# Altium schematic symbol library YL-LPC4350-CORE-V1.0 _Library.SchLib: 156 symbols (part 6 of 10)
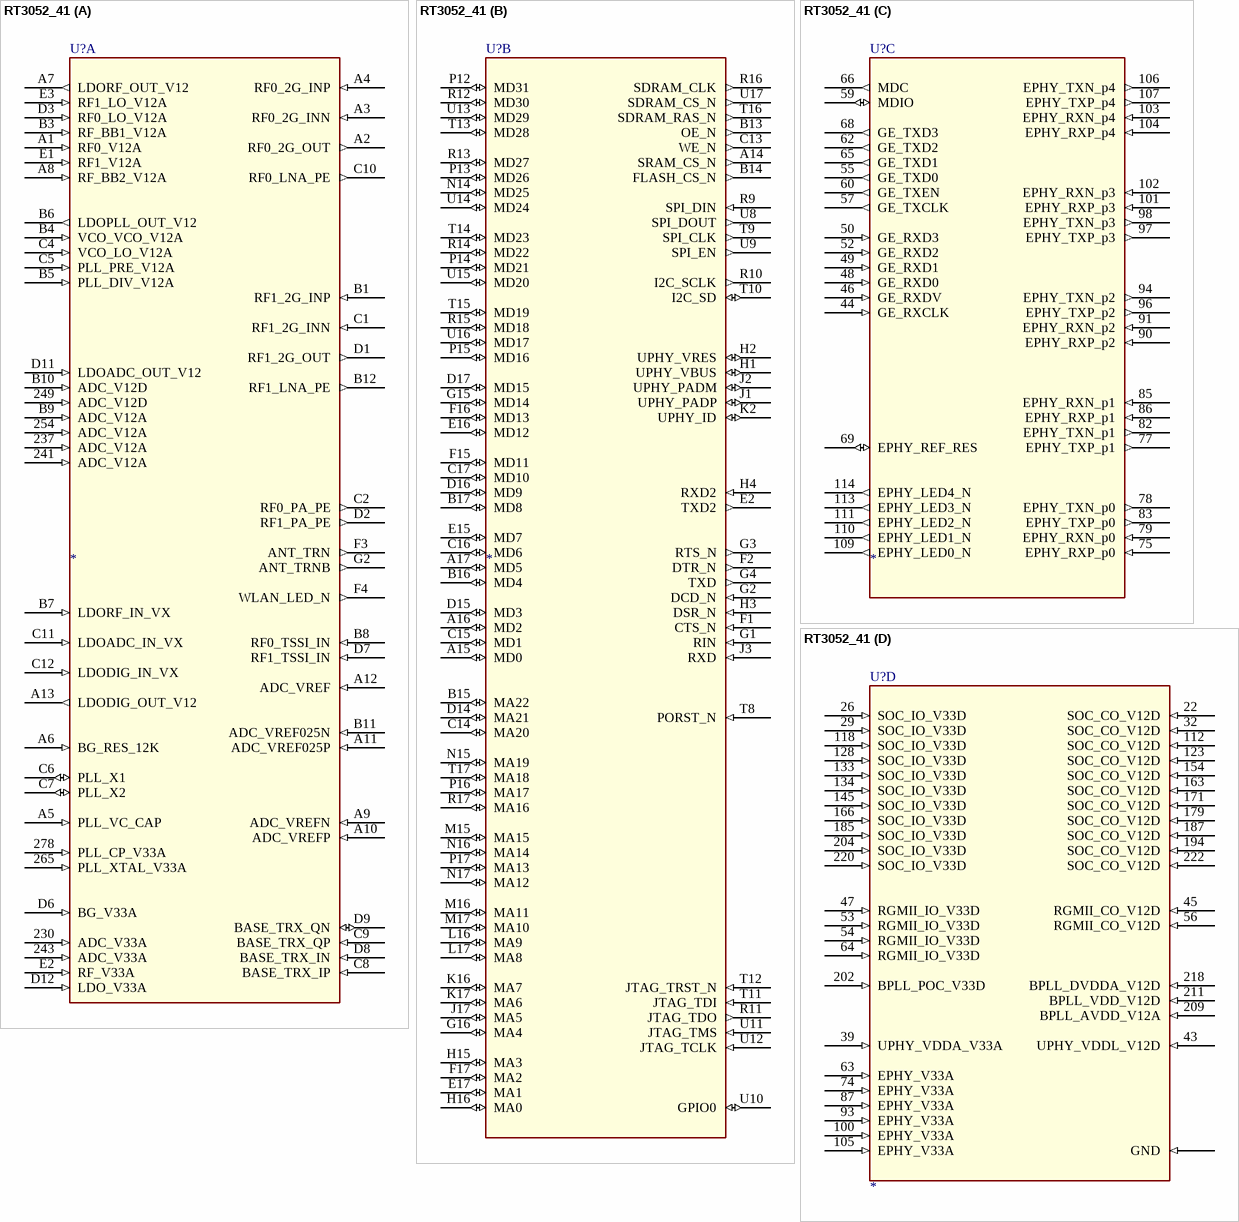
[diagram p155: symbol RT3052_41]

## RT3052_41
designator U?
Altium-Right: 180; Altium-Bottom: 630; Altium-Right1: 160; Altium-Bottom1: 720; Altium-Right2: 170; Altium-Bottom2: 360; Altium-Right3: 200; Altium-Bottom3: 330
footprint QFN285
part A pins: 230 ADC_V33A (in), 237 ADC_V12A (in), 241 ADC_V12A (in), 243 ADC_V33A (in), 249 ADC_V12D (in), 254 ADC_V12A (in), 265 PLL_XTAL_V33A (in), 278 PLL_CP_V33A (in), A1 RF0_V12A (in), A2 RF0_2G_OUT (out), A3 RF0_2G_INN (in), A4 RF0_2G_INP (in), A5 PLL_VC_CAP (in), A6 BG_RES_12K (in), A7 LDORF_OUT_V12 (out), A8 RF_BB2_V12A (in), A9 ADC_VREFN (in), A10 ADC_VREFP (in), A11 ADC_VREF025P (in), A12 ADC_VREF (in), A13 LDODIG_OUT_V12 (out), B1 RF1_2G_INP (in), B3 RF_BB1_V12A (in), B4 VCO_VCO_V12A (in), B5 PLL_DIV_V12A (in), B6 LDOPLL_OUT_V12 (out), B7 LDORF_IN_VX (in), B8 RF0_TSSI_IN (in), B9 ADC_V12A (in), B10 ADC_V12D (in), B11 ADC_VREF025N (in), B12 RF1_LNA_PE (out), C1 RF1_2G_INN (in), C2 RF0_PA_PE (out), C4 VCO_LO_V12A (in), C5 PLL_PRE_V12A (in), C6 PLL_X1 (io), C7 PLL_X2 (io), C8 BASE_TRX_IP (in), C9 BASE_TRX_QP (in), C10 RF0_LNA_PE (out), C11 LDOADC_IN_VX (in), C12 LDODIG_IN_VX (in), D1 RF1_2G_OUT (out), D2 RF1_PA_PE (out), D3 RF0_LO_V12A (in), D6 BG_V33A (in), D7 RF1_TSSI_IN (in), D8 BASE_TRX_IN (in), D9 BASE_TRX_QN (io), D11 LDOADC_OUT_V12 (in), D12 LDO_V33A (in), E1 RF1_V12A (in), E2 RF_V33A (in), E3 RF1_LO_V12A (in), F3 ANT_TRN (out), F4 WLAN_LED_N (out), G2 ANT_TRNB (out)
part B pins: A14 SRAM_CS_N (out), A15 MD0 (io), A16 MD2 (io), A17 MD5 (io), B13 OE_N (out), B14 FLASH_CS_N (out), B15 MA22 (io), B16 MD4 (io), B17 MD8 (io), C13 WE_N (out), C14 MA20 (io), C15 MD1 (io), C16 MD6 (io), C17 MD10 (io), D14 MA21 (io), D15 MD3 (io), D16 MD9 (io), D17 MD15 (io), E2 TXD2 (out), E15 MD7 (io), E16 MD12 (io), E17 MA1 (io), F1 CTS_N (in), F2 DTR_N (out), F15 MD11 (io), F16 MD13 (io), F17 MA2 (io), G1 RIN (in), G2 DCD_N (in), G3 RTS_N (out), G4 TXD (out), G15 MD14 (io), G16 MA4 (io), H1 UPHY_VBUS (io), H2 UPHY_VRES (io), H3 DSR_N (in), H4 RXD2 (in), H15 MA3 (io), H16 MA0 (io), J1 UPHY_PADP (io), J2 UPHY_PADM (io), J3 RXD (in), J17 MA5 (io), K2 UPHY_ID (io), K16 MA7 (io), K17 MA6 (io), L16 MA9 (io), L17 MA8 (io), M15 MA15 (io), M16 MA11 (io), M17 MA10 (io), N14 MD25 (io), N15 MA19 (io), N16 MA14 (io), N17 MA12 (io), P12 MD31 (io), P13 MD26 (io), P14 MD21 (io), P15 MD16 (io), P16 MA17 (io), P17 MA13 (io), R9 SPI_DIN (in), R10 I2C_SCLK (out), R11 JTAG_TDO (out), R12 MD30 (io), R13 MD27 (io), R14 MD22 (io), R15 MD18 (io), R16 SDRAM_CLK (out), R17 MA16 (io), T8 PORST_N (in), T9 SPI_CLK (out), T10 I2C_SD (io), T11 JTAG_TDI (in), T12 JTAG_TRST_N (in), T13 MD28 (io), T14 MD23 (io), T15 MD19 (io), T16 SDRAM_RAS_N (out), T17 MA18 (io), U8 SPI_DOUT (out), U9 SPI_EN (out), U10 GPIO0 (io), U11 JTAG_TMS (in), U12 JTAG_TCLK (in), U13 MD29 (io), U14 MD24 (io), U15 MD20 (io), U16 MD17 (io), U17 SDRAM_CS_N (out)
part C pins: 44 GE_RXCLK (in), 46 GE_RXDV (in), 48 GE_RXD0 (in), 49 GE_RXD1 (in), 50 GE_RXD3 (in), 52 GE_RXD2 (in), 55 GE_TXD0 (out), 57 GE_TXCLK (out), 59 MDIO (io), 60 GE_TXEN (out), 62 GE_TXD2 (out), 65 GE_TXD1 (out), 66 MDC (out), 68 GE_TXD3 (out), 69 EPHY_REF_RES (io), 75 EPHY_RXP_p0 (in), 77 EPHY_TXP_p1 (out), 78 EPHY_TXN_p0 (out), 79 EPHY_RXN_p0 (in), 82 EPHY_TXN_p1 (out), 83 EPHY_TXP_p0 (out), 85 EPHY_RXN_p1 (in), 86 EPHY_RXP_p1 (in), 90 EPHY_RXP_p2 (in), 91 EPHY_RXN_p2 (in), 94 EPHY_TXN_p2 (out), 96 EPHY_TXP_p2 (out), 97 EPHY_TXP_p3 (out), 98 EPHY_TXN_p3 (out), 101 EPHY_RXP_p3 (in), 102 EPHY_RXN_p3 (in), 103 EPHY_RXN_p4 (in), 104 EPHY_RXP_p4 (in), 106 EPHY_TXN_p4 (out), 107 EPHY_TXP_p4 (out), 109 EPHY_LED0_N (out), 110 EPHY_LED1_N (out), 111 EPHY_LED2_N (out), 113 EPHY_LED3_N (out), 114 EPHY_LED4_N (out)
part D pins: 22 SOC_CO_V12D (in), 26 SOC_IO_V33D (in), 29 SOC_IO_V33D (in), 32 SOC_CO_V12D (in), 39 UPHY_VDDA_V33A (in), 43 UPHY_VDDL_V12D (in), 45 RGMII_CO_V12D (in), 47 RGMII_IO_V33D (in), 53 RGMII_IO_V33D (in), 54 RGMII_IO_V33D (in), 56 RGMII_CO_V12D (in), 63 EPHY_V33A (in), 64 RGMII_IO_V33D (in), 74 EPHY_V33A (in), 87 EPHY_V33A (in), 93 EPHY_V33A (in), 100 EPHY_V33A (in), 105 EPHY_V33A (in), 112 SOC_CO_V12D (in), 118 SOC_IO_V33D (in), 123 SOC_CO_V12D (in), 128 SOC_IO_V33D (in), 133 SOC_IO_V33D (in), 134 SOC_IO_V33D (in), 145 SOC_IO_V33D (in), 154 SOC_CO_V12D (in), 163 SOC_CO_V12D (in), 166 SOC_IO_V33D (in), 171 SOC_CO_V12D (in), 179 SOC_CO_V12D (in), 185 SOC_IO_V33D (in), 187 SOC_CO_V12D (in), 194 SOC_CO_V12D (in), 202 BPLL_POC_V33D (in), 204 SOC_IO_V33D (in), 209 BPLL_AVDD_V12A (in), 211 BPLL_VDD_V12D (in), 218 BPLL_DVDDA_V12D (in), 220 SOC_IO_V33D (in), 222 SOC_CO_V12D (in), GND (in)

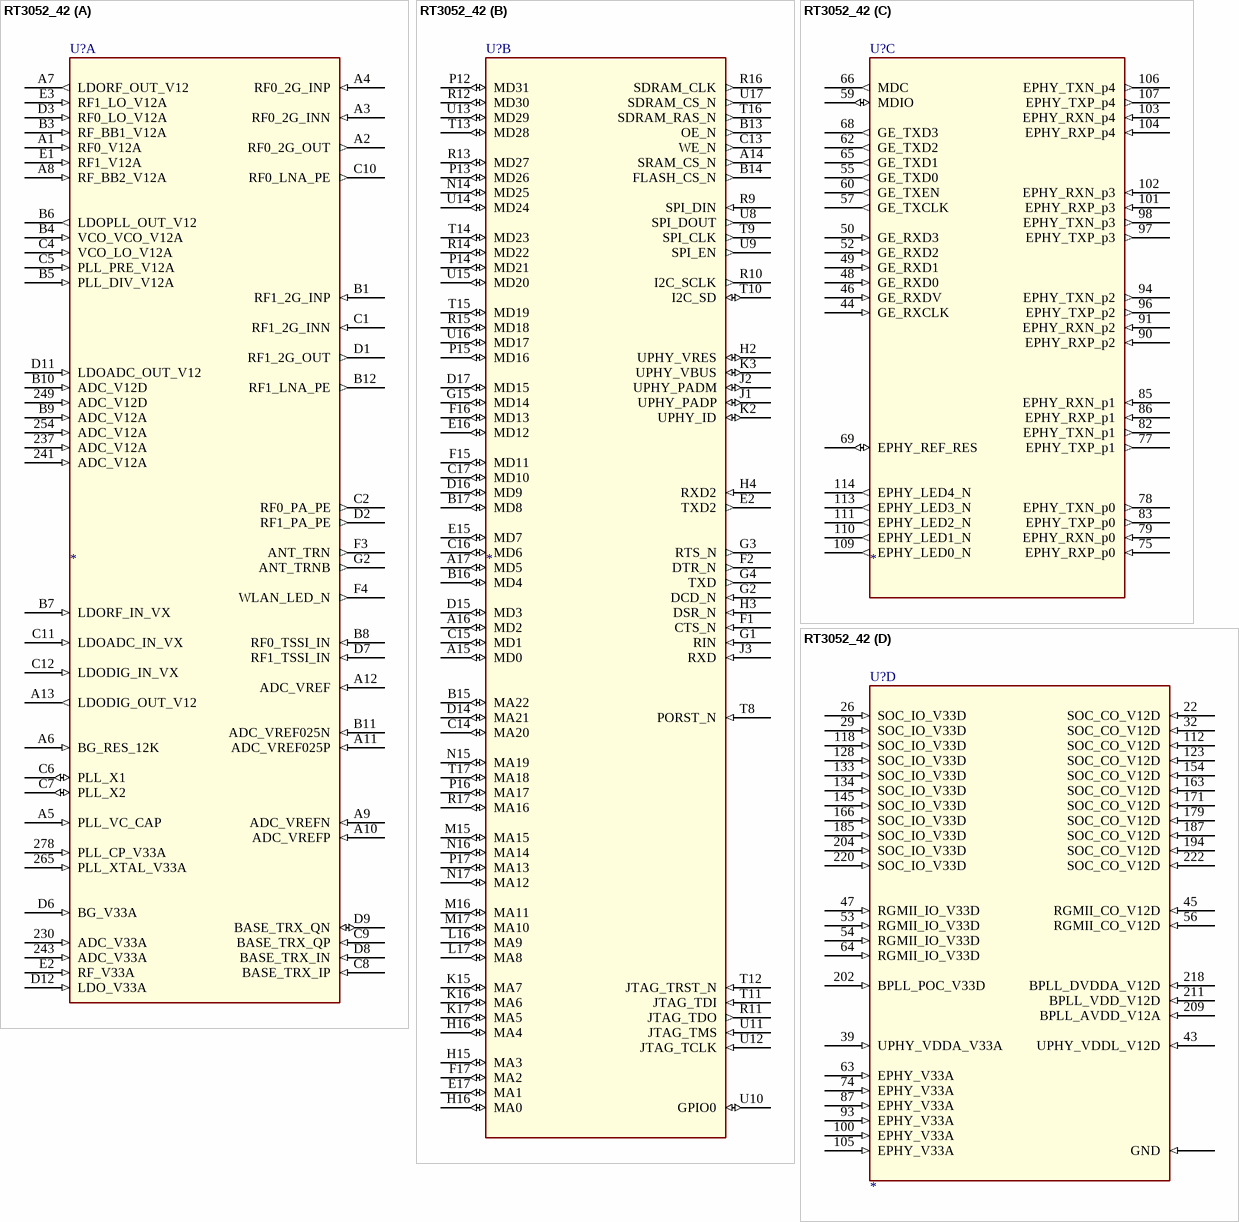
[diagram p53: symbol RT3052_42]

## RT3052_42
designator U?
Altium-Right: 180; Altium-Bottom: 630; Altium-Right1: 160; Altium-Bottom1: 720; Altium-Right2: 170; Altium-Bottom2: 360; Altium-Right3: 200; Altium-Bottom3: 330
footprint QFN285
part A pins: 230 ADC_V33A (in), 237 ADC_V12A (in), 241 ADC_V12A (in), 243 ADC_V33A (in), 249 ADC_V12D (in), 254 ADC_V12A (in), 265 PLL_XTAL_V33A (in), 278 PLL_CP_V33A (in), A1 RF0_V12A (in), A2 RF0_2G_OUT (out), A3 RF0_2G_INN (in), A4 RF0_2G_INP (in), A5 PLL_VC_CAP (in), A6 BG_RES_12K (in), A7 LDORF_OUT_V12 (out), A8 RF_BB2_V12A (in), A9 ADC_VREFN (in), A10 ADC_VREFP (in), A11 ADC_VREF025P (in), A12 ADC_VREF (in), A13 LDODIG_OUT_V12 (out), B1 RF1_2G_INP (in), B3 RF_BB1_V12A (in), B4 VCO_VCO_V12A (in), B5 PLL_DIV_V12A (in), B6 LDOPLL_OUT_V12 (out), B7 LDORF_IN_VX (in), B8 RF0_TSSI_IN (in), B9 ADC_V12A (in), B10 ADC_V12D (in), B11 ADC_VREF025N (in), B12 RF1_LNA_PE (out), C1 RF1_2G_INN (in), C2 RF0_PA_PE (out), C4 VCO_LO_V12A (in), C5 PLL_PRE_V12A (in), C6 PLL_X1 (io), C7 PLL_X2 (io), C8 BASE_TRX_IP (in), C9 BASE_TRX_QP (in), C10 RF0_LNA_PE (out), C11 LDOADC_IN_VX (in), C12 LDODIG_IN_VX (in), D1 RF1_2G_OUT (out), D2 RF1_PA_PE (out), D3 RF0_LO_V12A (in), D6 BG_V33A (in), D7 RF1_TSSI_IN (in), D8 BASE_TRX_IN (in), D9 BASE_TRX_QN (io), D11 LDOADC_OUT_V12 (in), D12 LDO_V33A (in), E1 RF1_V12A (in), E2 RF_V33A (in), E3 RF1_LO_V12A (in), F3 ANT_TRN (out), F4 WLAN_LED_N (out), G2 ANT_TRNB (out)
part B pins: A14 SRAM_CS_N (out), A15 MD0 (io), A16 MD2 (io), A17 MD5 (io), B13 OE_N (out), B14 FLASH_CS_N (out), B15 MA22 (io), B16 MD4 (io), B17 MD8 (io), C13 WE_N (out), C14 MA20 (io), C15 MD1 (io), C16 MD6 (io), C17 MD10 (io), D14 MA21 (io), D15 MD3 (io), D16 MD9 (io), D17 MD15 (io), E2 TXD2 (out), E15 MD7 (io), E16 MD12 (io), E17 MA1 (io), F1 CTS_N (in), F2 DTR_N (out), F15 MD11 (io), F16 MD13 (io), F17 MA2 (io), G1 RIN (in), G2 DCD_N (in), G3 RTS_N (out), G4 TXD (out), G15 MD14 (io), H2 UPHY_VRES (io), H3 DSR_N (in), H4 RXD2 (in), H15 MA3 (io), H16 MA4 (io), H16 MA0 (io), J1 UPHY_PADP (io), J2 UPHY_PADM (io), J3 RXD (in), K2 UPHY_ID (io), K3 UPHY_VBUS (io), K15 MA7 (io), K16 MA6 (io), K17 MA5 (io), L16 MA9 (io), L17 MA8 (io), M15 MA15 (io), M16 MA11 (io), M17 MA10 (io), N14 MD25 (io), N15 MA19 (io), N16 MA14 (io), N17 MA12 (io), P12 MD31 (io), P13 MD26 (io), P14 MD21 (io), P15 MD16 (io), P16 MA17 (io), P17 MA13 (io), R9 SPI_DIN (in), R10 I2C_SCLK (out), R11 JTAG_TDO (out), R12 MD30 (io), R13 MD27 (io), R14 MD22 (io), R15 MD18 (io), R16 SDRAM_CLK (out), R17 MA16 (io), T8 PORST_N (in), T9 SPI_CLK (out), T10 I2C_SD (io), T11 JTAG_TDI (in), T12 JTAG_TRST_N (in), T13 MD28 (io), T14 MD23 (io), T15 MD19 (io), T16 SDRAM_RAS_N (out), T17 MA18 (io), U8 SPI_DOUT (out), U9 SPI_EN (out), U10 GPIO0 (io), U11 JTAG_TMS (in), U12 JTAG_TCLK (in), U13 MD29 (io), U14 MD24 (io), U15 MD20 (io), U16 MD17 (io), U17 SDRAM_CS_N (out)
part C pins: 44 GE_RXCLK (in), 46 GE_RXDV (in), 48 GE_RXD0 (in), 49 GE_RXD1 (in), 50 GE_RXD3 (in), 52 GE_RXD2 (in), 55 GE_TXD0 (out), 57 GE_TXCLK (out), 59 MDIO (io), 60 GE_TXEN (out), 62 GE_TXD2 (out), 65 GE_TXD1 (out), 66 MDC (out), 68 GE_TXD3 (out), 69 EPHY_REF_RES (io), 75 EPHY_RXP_p0 (in), 77 EPHY_TXP_p1 (out), 78 EPHY_TXN_p0 (out), 79 EPHY_RXN_p0 (in), 82 EPHY_TXN_p1 (out), 83 EPHY_TXP_p0 (out), 85 EPHY_RXN_p1 (in), 86 EPHY_RXP_p1 (in), 90 EPHY_RXP_p2 (in), 91 EPHY_RXN_p2 (in), 94 EPHY_TXN_p2 (out), 96 EPHY_TXP_p2 (out), 97 EPHY_TXP_p3 (out), 98 EPHY_TXN_p3 (out), 101 EPHY_RXP_p3 (in), 102 EPHY_RXN_p3 (in), 103 EPHY_RXN_p4 (in), 104 EPHY_RXP_p4 (in), 106 EPHY_TXN_p4 (out), 107 EPHY_TXP_p4 (out), 109 EPHY_LED0_N (out), 110 EPHY_LED1_N (out), 111 EPHY_LED2_N (out), 113 EPHY_LED3_N (out), 114 EPHY_LED4_N (out)
part D pins: 22 SOC_CO_V12D (in), 26 SOC_IO_V33D (in), 29 SOC_IO_V33D (in), 32 SOC_CO_V12D (in), 39 UPHY_VDDA_V33A (in), 43 UPHY_VDDL_V12D (in), 45 RGMII_CO_V12D (in), 47 RGMII_IO_V33D (in), 53 RGMII_IO_V33D (in), 54 RGMII_IO_V33D (in), 56 RGMII_CO_V12D (in), 63 EPHY_V33A (in), 64 RGMII_IO_V33D (in), 74 EPHY_V33A (in), 87 EPHY_V33A (in), 93 EPHY_V33A (in), 100 EPHY_V33A (in), 105 EPHY_V33A (in), 112 SOC_CO_V12D (in), 118 SOC_IO_V33D (in), 123 SOC_CO_V12D (in), 128 SOC_IO_V33D (in), 133 SOC_IO_V33D (in), 134 SOC_IO_V33D (in), 145 SOC_IO_V33D (in), 154 SOC_CO_V12D (in), 163 SOC_CO_V12D (in), 166 SOC_IO_V33D (in), 171 SOC_CO_V12D (in), 179 SOC_CO_V12D (in), 185 SOC_IO_V33D (in), 187 SOC_CO_V12D (in), 194 SOC_CO_V12D (in), 202 BPLL_POC_V33D (in), 204 SOC_IO_V33D (in), 209 BPLL_AVDD_V12A (in), 211 BPLL_VDD_V12D (in), 218 BPLL_DVDDA_V12D (in), 220 SOC_IO_V33D (in), 222 SOC_CO_V12D (in), GND (in)

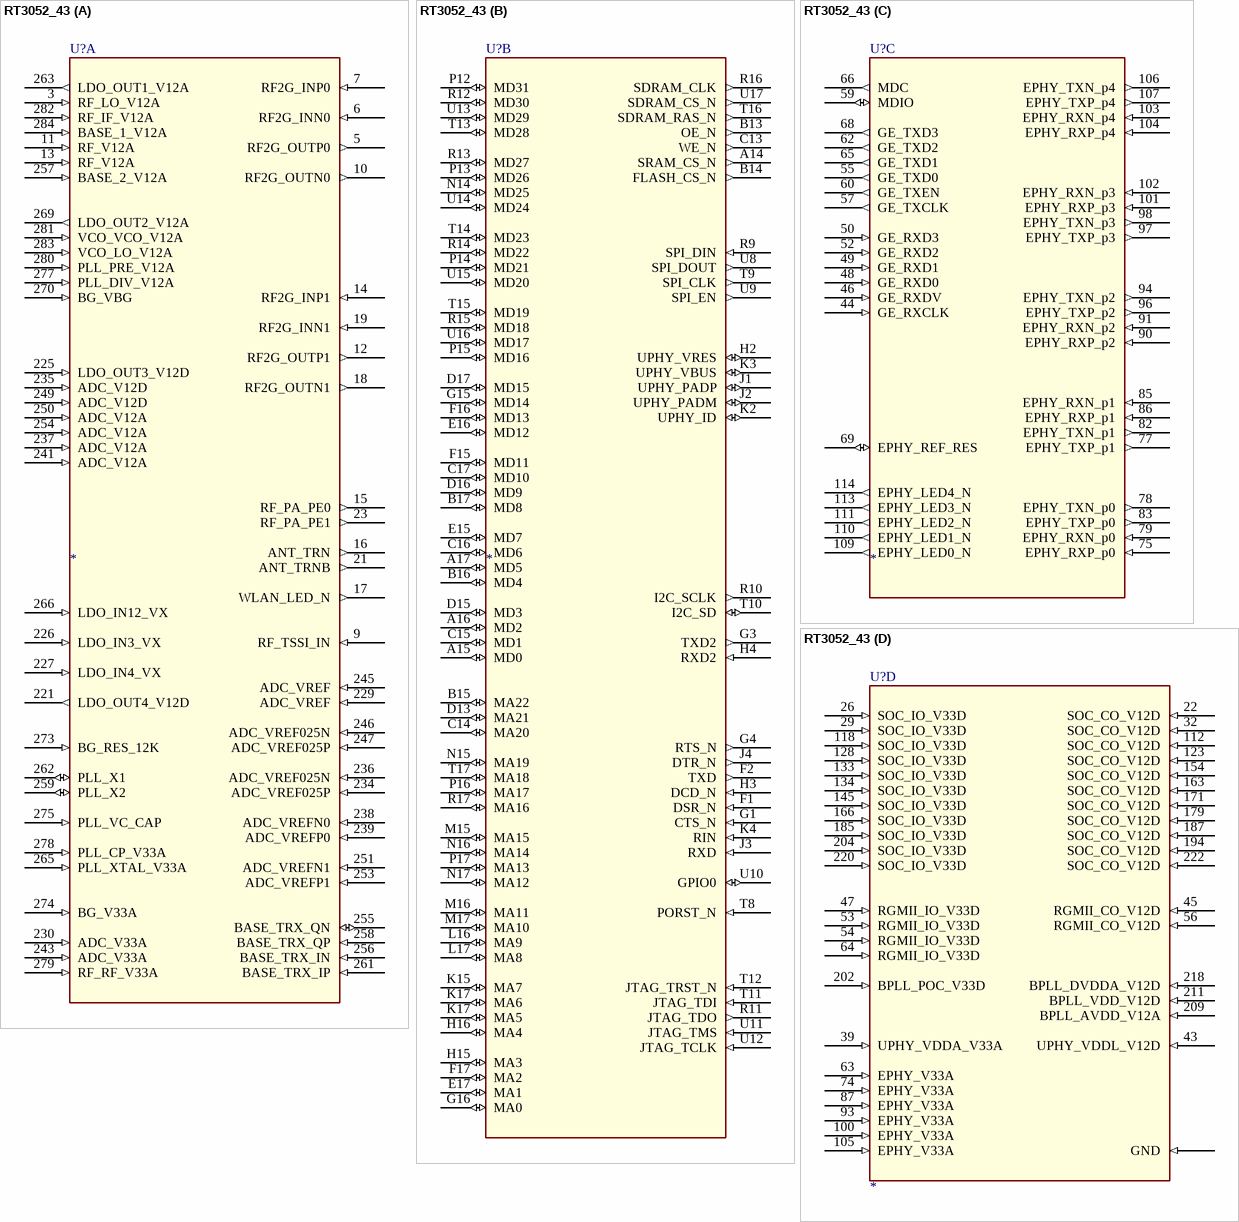
[diagram p54: symbol RT3052_43]

## RT3052_43
designator U?
Altium-Right: 180; Altium-Bottom: 630; Altium-Right1: 160; Altium-Bottom1: 720; Altium-Right2: 170; Altium-Bottom2: 360; Altium-Right3: 200; Altium-Bottom3: 330
footprint TFBGA289
part A pins: 3 RF_LO_V12A (in), 5 RF2G_OUTP0 (out), 6 RF2G_INN0 (in), 7 RF2G_INP0 (in), 9 RF_TSSI_IN (in), 10 RF2G_OUTN0 (out), 11 RF_V12A (in), 12 RF2G_OUTP1 (out), 13 RF_V12A (in), 14 RF2G_INP1 (in), 15 RF_PA_PE0 (out), 16 ANT_TRN (out), 17 WLAN_LED_N (out), 18 RF2G_OUTN1 (out), 19 RF2G_INN1 (in), 21 ANT_TRNB (out), 23 RF_PA_PE1 (out), 221 LDO_OUT4_V12D (out), 225 LDO_OUT3_V12D (in), 226 LDO_IN3_VX (in), 227 LDO_IN4_VX (in), 229 ADC_VREF (in), 230 ADC_V33A (in), 234 ADC_VREF025P (in), 235 ADC_V12D (in), 236 ADC_VREF025N (in), 237 ADC_V12A (in), 238 ADC_VREFN0 (in), 239 ADC_VREFP0 (in), 241 ADC_V12A (in), 243 ADC_V33A (in), 245 ADC_VREF (in), 246 ADC_VREF025N (in), 247 ADC_VREF025P (in), 249 ADC_V12D (in), 250 ADC_V12A (in), 251 ADC_VREFN1 (in), 253 ADC_VREFP1 (in), 254 ADC_V12A (in), 255 BASE_TRX_QN (io), 256 BASE_TRX_IN (in), 257 BASE_2_V12A (in), 258 BASE_TRX_QP (in), 259 PLL_X2 (io), 261 BASE_TRX_IP (in), 262 PLL_X1 (io), 263 LDO_OUT1_V12A (out), 265 PLL_XTAL_V33A (in), 266 LDO_IN12_VX (in), 269 LDO_OUT2_V12A (out), 270 BG_VBG (in), 273 BG_RES_12K (in), 274 BG_V33A (in), 275 PLL_VC_CAP (in), 277 PLL_DIV_V12A (in), 278 PLL_CP_V33A (in), 279 RF_RF_V33A (in), 280 PLL_PRE_V12A (in), 281 VCO_VCO_V12A (in), 282 RF_IF_V12A (in), 283 VCO_LO_V12A (in), 284 BASE_1_V12A (in)
part B pins: A14 SRAM_CS_N (out), A15 MD0 (io), A16 MD2 (io), A17 MD5 (io), B13 OE_N (out), B14 FLASH_CS_N (out), B15 MA22 (io), B16 MD4 (io), B17 MD8 (io), C13 WE_N (out), C14 MA20 (io), C15 MD1 (io), C16 MD6 (io), C17 MD10 (io), D13 MA21 (io), D15 MD3 (io), D16 MD9 (io), D17 MD15 (io), E15 MD7 (io), E16 MD12 (io), E17 MA1 (io), F1 DSR_N (in), F2 TXD (out), F15 MD11 (io), F16 MD13 (io), F17 MA2 (io), G1 CTS_N (in), G3 TXD2 (out), G4 RTS_N (out), G15 MD14 (io), G16 MA0 (io), H2 UPHY_VRES (io), H3 DCD_N (in), H4 RXD2 (in), H15 MA3 (io), H16 MA4 (io), J1 UPHY_PADP (io), J2 UPHY_PADM (io), J3 RXD (in), J4 DTR_N (out), K2 UPHY_ID (io), K3 UPHY_VBUS (io), K4 RIN (in), K15 MA7 (io), K17 MA6 (io), K17 MA5 (io), L16 MA9 (io), L17 MA8 (io), M15 MA15 (io), M16 MA11 (io), M17 MA10 (io), N14 MD25 (io), N15 MA19 (io), N16 MA14 (io), N17 MA12 (io), P12 MD31 (io), P13 MD26 (io), P14 MD21 (io), P15 MD16 (io), P16 MA17 (io), P17 MA13 (io), R9 SPI_DIN (in), R10 I2C_SCLK (out), R11 JTAG_TDO (out), R12 MD30 (io), R13 MD27 (io), R14 MD22 (io), R15 MD18 (io), R16 SDRAM_CLK (out), R17 MA16 (io), T8 PORST_N (in), T9 SPI_CLK (out), T10 I2C_SD (io), T11 JTAG_TDI (in), T12 JTAG_TRST_N (in), T13 MD28 (io), T14 MD23 (io), T15 MD19 (io), T16 SDRAM_RAS_N (out), T17 MA18 (io), U8 SPI_DOUT (out), U9 SPI_EN (out), U10 GPIO0 (io), U11 JTAG_TMS (in), U12 JTAG_TCLK (in), U13 MD29 (io), U14 MD24 (io), U15 MD20 (io), U16 MD17 (io), U17 SDRAM_CS_N (out)
part C pins: 44 GE_RXCLK (in), 46 GE_RXDV (in), 48 GE_RXD0 (in), 49 GE_RXD1 (in), 50 GE_RXD3 (in), 52 GE_RXD2 (in), 55 GE_TXD0 (out), 57 GE_TXCLK (out), 59 MDIO (io), 60 GE_TXEN (out), 62 GE_TXD2 (out), 65 GE_TXD1 (out), 66 MDC (out), 68 GE_TXD3 (out), 69 EPHY_REF_RES (io), 75 EPHY_RXP_p0 (in), 77 EPHY_TXP_p1 (out), 78 EPHY_TXN_p0 (out), 79 EPHY_RXN_p0 (in), 82 EPHY_TXN_p1 (out), 83 EPHY_TXP_p0 (out), 85 EPHY_RXN_p1 (in), 86 EPHY_RXP_p1 (in), 90 EPHY_RXP_p2 (in), 91 EPHY_RXN_p2 (in), 94 EPHY_TXN_p2 (out), 96 EPHY_TXP_p2 (out), 97 EPHY_TXP_p3 (out), 98 EPHY_TXN_p3 (out), 101 EPHY_RXP_p3 (in), 102 EPHY_RXN_p3 (in), 103 EPHY_RXN_p4 (in), 104 EPHY_RXP_p4 (in), 106 EPHY_TXN_p4 (out), 107 EPHY_TXP_p4 (out), 109 EPHY_LED0_N (out), 110 EPHY_LED1_N (out), 111 EPHY_LED2_N (out), 113 EPHY_LED3_N (out), 114 EPHY_LED4_N (out)
part D pins: 22 SOC_CO_V12D (in), 26 SOC_IO_V33D (in), 29 SOC_IO_V33D (in), 32 SOC_CO_V12D (in), 39 UPHY_VDDA_V33A (in), 43 UPHY_VDDL_V12D (in), 45 RGMII_CO_V12D (in), 47 RGMII_IO_V33D (in), 53 RGMII_IO_V33D (in), 54 RGMII_IO_V33D (in), 56 RGMII_CO_V12D (in), 63 EPHY_V33A (in), 64 RGMII_IO_V33D (in), 74 EPHY_V33A (in), 87 EPHY_V33A (in), 93 EPHY_V33A (in), 100 EPHY_V33A (in), 105 EPHY_V33A (in), 112 SOC_CO_V12D (in), 118 SOC_IO_V33D (in), 123 SOC_CO_V12D (in), 128 SOC_IO_V33D (in), 133 SOC_IO_V33D (in), 134 SOC_IO_V33D (in), 145 SOC_IO_V33D (in), 154 SOC_CO_V12D (in), 163 SOC_CO_V12D (in), 166 SOC_IO_V33D (in), 171 SOC_CO_V12D (in), 179 SOC_CO_V12D (in), 185 SOC_IO_V33D (in), 187 SOC_CO_V12D (in), 194 SOC_CO_V12D (in), 202 BPLL_POC_V33D (in), 204 SOC_IO_V33D (in), 209 BPLL_AVDD_V12A (in), 211 BPLL_VDD_V12D (in), 218 BPLL_DVDDA_V12D (in), 220 SOC_IO_V33D (in), 222 SOC_CO_V12D (in), GND (in)

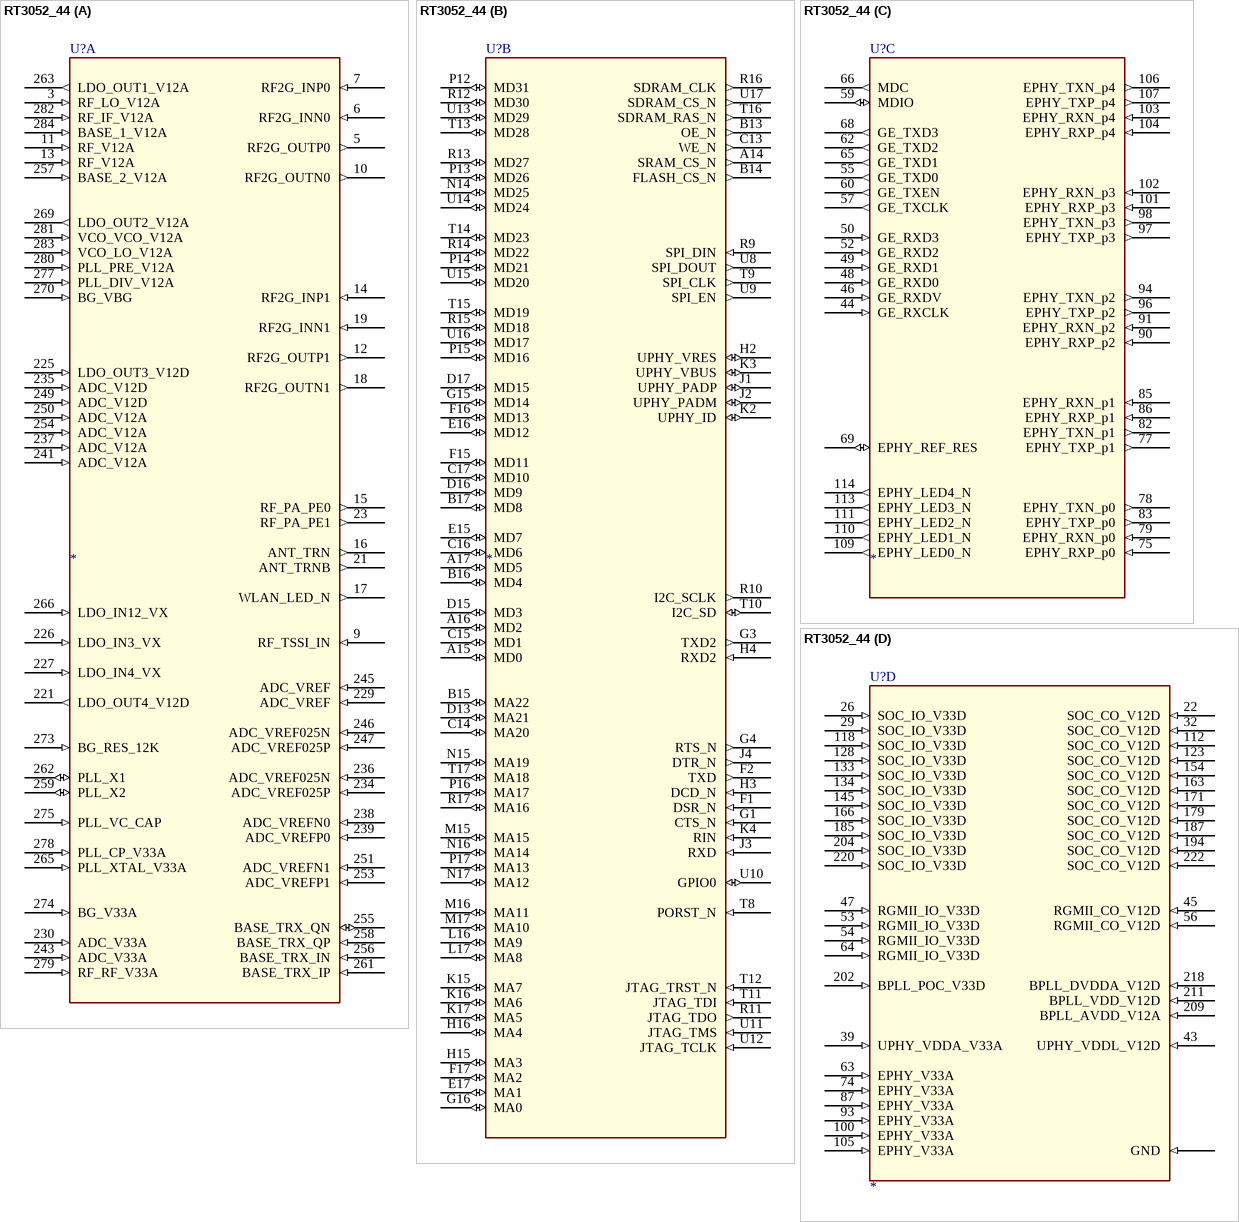
[diagram p55: symbol RT3052_44]

## RT3052_44
designator U?
Altium-Right: 180; Altium-Bottom: 630; Altium-Right1: 160; Altium-Bottom1: 720; Altium-Right2: 170; Altium-Bottom2: 360; Altium-Right3: 200; Altium-Bottom3: 330
footprint TFBGA289
part A pins: 3 RF_LO_V12A (in), 5 RF2G_OUTP0 (out), 6 RF2G_INN0 (in), 7 RF2G_INP0 (in), 9 RF_TSSI_IN (in), 10 RF2G_OUTN0 (out), 11 RF_V12A (in), 12 RF2G_OUTP1 (out), 13 RF_V12A (in), 14 RF2G_INP1 (in), 15 RF_PA_PE0 (out), 16 ANT_TRN (out), 17 WLAN_LED_N (out), 18 RF2G_OUTN1 (out), 19 RF2G_INN1 (in), 21 ANT_TRNB (out), 23 RF_PA_PE1 (out), 221 LDO_OUT4_V12D (out), 225 LDO_OUT3_V12D (in), 226 LDO_IN3_VX (in), 227 LDO_IN4_VX (in), 229 ADC_VREF (in), 230 ADC_V33A (in), 234 ADC_VREF025P (in), 235 ADC_V12D (in), 236 ADC_VREF025N (in), 237 ADC_V12A (in), 238 ADC_VREFN0 (in), 239 ADC_VREFP0 (in), 241 ADC_V12A (in), 243 ADC_V33A (in), 245 ADC_VREF (in), 246 ADC_VREF025N (in), 247 ADC_VREF025P (in), 249 ADC_V12D (in), 250 ADC_V12A (in), 251 ADC_VREFN1 (in), 253 ADC_VREFP1 (in), 254 ADC_V12A (in), 255 BASE_TRX_QN (io), 256 BASE_TRX_IN (in), 257 BASE_2_V12A (in), 258 BASE_TRX_QP (in), 259 PLL_X2 (io), 261 BASE_TRX_IP (in), 262 PLL_X1 (io), 263 LDO_OUT1_V12A (out), 265 PLL_XTAL_V33A (in), 266 LDO_IN12_VX (in), 269 LDO_OUT2_V12A (out), 270 BG_VBG (in), 273 BG_RES_12K (in), 274 BG_V33A (in), 275 PLL_VC_CAP (in), 277 PLL_DIV_V12A (in), 278 PLL_CP_V33A (in), 279 RF_RF_V33A (in), 280 PLL_PRE_V12A (in), 281 VCO_VCO_V12A (in), 282 RF_IF_V12A (in), 283 VCO_LO_V12A (in), 284 BASE_1_V12A (in)
part B pins: A14 SRAM_CS_N (out), A15 MD0 (io), A16 MD2 (io), A17 MD5 (io), B13 OE_N (out), B14 FLASH_CS_N (out), B15 MA22 (io), B16 MD4 (io), B17 MD8 (io), C13 WE_N (out), C14 MA20 (io), C15 MD1 (io), C16 MD6 (io), C17 MD10 (io), D13 MA21 (io), D15 MD3 (io), D16 MD9 (io), D17 MD15 (io), E15 MD7 (io), E16 MD12 (io), E17 MA1 (io), F1 DSR_N (in), F2 TXD (out), F15 MD11 (io), F16 MD13 (io), F17 MA2 (io), G1 CTS_N (in), G3 TXD2 (out), G4 RTS_N (out), G15 MD14 (io), G16 MA0 (io), H2 UPHY_VRES (io), H3 DCD_N (in), H4 RXD2 (in), H15 MA3 (io), H16 MA4 (io), J1 UPHY_PADP (io), J2 UPHY_PADM (io), J3 RXD (in), J4 DTR_N (out), K2 UPHY_ID (io), K3 UPHY_VBUS (io), K4 RIN (in), K15 MA7 (io), K16 MA6 (io), K17 MA5 (io), L16 MA9 (io), L17 MA8 (io), M15 MA15 (io), M16 MA11 (io), M17 MA10 (io), N14 MD25 (io), N15 MA19 (io), N16 MA14 (io), N17 MA12 (io), P12 MD31 (io), P13 MD26 (io), P14 MD21 (io), P15 MD16 (io), P16 MA17 (io), P17 MA13 (io), R9 SPI_DIN (in), R10 I2C_SCLK (out), R11 JTAG_TDO (out), R12 MD30 (io), R13 MD27 (io), R14 MD22 (io), R15 MD18 (io), R16 SDRAM_CLK (out), R17 MA16 (io), T8 PORST_N (in), T9 SPI_CLK (out), T10 I2C_SD (io), T11 JTAG_TDI (in), T12 JTAG_TRST_N (in), T13 MD28 (io), T14 MD23 (io), T15 MD19 (io), T16 SDRAM_RAS_N (out), T17 MA18 (io), U8 SPI_DOUT (out), U9 SPI_EN (out), U10 GPIO0 (io), U11 JTAG_TMS (in), U12 JTAG_TCLK (in), U13 MD29 (io), U14 MD24 (io), U15 MD20 (io), U16 MD17 (io), U17 SDRAM_CS_N (out)
part C pins: 44 GE_RXCLK (in), 46 GE_RXDV (in), 48 GE_RXD0 (in), 49 GE_RXD1 (in), 50 GE_RXD3 (in), 52 GE_RXD2 (in), 55 GE_TXD0 (out), 57 GE_TXCLK (out), 59 MDIO (io), 60 GE_TXEN (out), 62 GE_TXD2 (out), 65 GE_TXD1 (out), 66 MDC (out), 68 GE_TXD3 (out), 69 EPHY_REF_RES (io), 75 EPHY_RXP_p0 (in), 77 EPHY_TXP_p1 (out), 78 EPHY_TXN_p0 (out), 79 EPHY_RXN_p0 (in), 82 EPHY_TXN_p1 (out), 83 EPHY_TXP_p0 (out), 85 EPHY_RXN_p1 (in), 86 EPHY_RXP_p1 (in), 90 EPHY_RXP_p2 (in), 91 EPHY_RXN_p2 (in), 94 EPHY_TXN_p2 (out), 96 EPHY_TXP_p2 (out), 97 EPHY_TXP_p3 (out), 98 EPHY_TXN_p3 (out), 101 EPHY_RXP_p3 (in), 102 EPHY_RXN_p3 (in), 103 EPHY_RXN_p4 (in), 104 EPHY_RXP_p4 (in), 106 EPHY_TXN_p4 (out), 107 EPHY_TXP_p4 (out), 109 EPHY_LED0_N (out), 110 EPHY_LED1_N (out), 111 EPHY_LED2_N (out), 113 EPHY_LED3_N (out), 114 EPHY_LED4_N (out)
part D pins: 22 SOC_CO_V12D (in), 26 SOC_IO_V33D (in), 29 SOC_IO_V33D (in), 32 SOC_CO_V12D (in), 39 UPHY_VDDA_V33A (in), 43 UPHY_VDDL_V12D (in), 45 RGMII_CO_V12D (in), 47 RGMII_IO_V33D (in), 53 RGMII_IO_V33D (in), 54 RGMII_IO_V33D (in), 56 RGMII_CO_V12D (in), 63 EPHY_V33A (in), 64 RGMII_IO_V33D (in), 74 EPHY_V33A (in), 87 EPHY_V33A (in), 93 EPHY_V33A (in), 100 EPHY_V33A (in), 105 EPHY_V33A (in), 112 SOC_CO_V12D (in), 118 SOC_IO_V33D (in), 123 SOC_CO_V12D (in), 128 SOC_IO_V33D (in), 133 SOC_IO_V33D (in), 134 SOC_IO_V33D (in), 145 SOC_IO_V33D (in), 154 SOC_CO_V12D (in), 163 SOC_CO_V12D (in), 166 SOC_IO_V33D (in), 171 SOC_CO_V12D (in), 179 SOC_CO_V12D (in), 185 SOC_IO_V33D (in), 187 SOC_CO_V12D (in), 194 SOC_CO_V12D (in), 202 BPLL_POC_V33D (in), 204 SOC_IO_V33D (in), 209 BPLL_AVDD_V12A (in), 211 BPLL_VDD_V12D (in), 218 BPLL_DVDDA_V12D (in), 220 SOC_IO_V33D (in), 222 SOC_CO_V12D (in), GND (in)

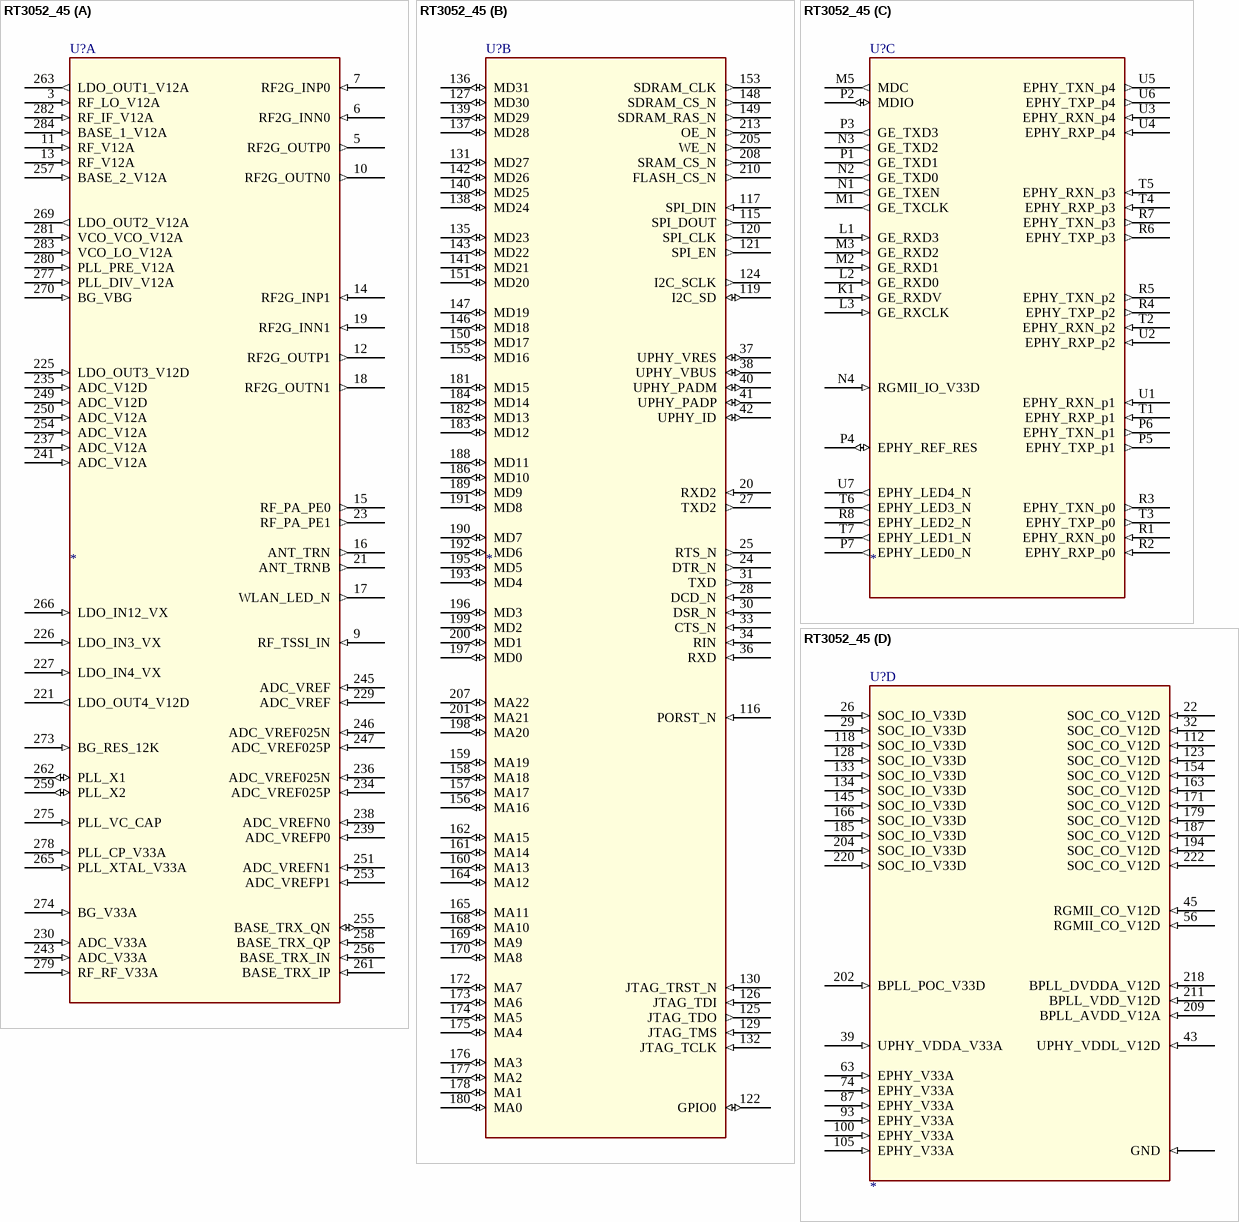
[diagram p56: symbol RT3052_45]

## RT3052_45
designator U?
Altium-Right: 180; Altium-Bottom: 630; Altium-Right1: 160; Altium-Bottom1: 720; Altium-Right2: 170; Altium-Bottom2: 360; Altium-Right3: 200; Altium-Bottom3: 330
footprint QFN285
part A pins: 3 RF_LO_V12A (in), 5 RF2G_OUTP0 (out), 6 RF2G_INN0 (in), 7 RF2G_INP0 (in), 9 RF_TSSI_IN (in), 10 RF2G_OUTN0 (out), 11 RF_V12A (in), 12 RF2G_OUTP1 (out), 13 RF_V12A (in), 14 RF2G_INP1 (in), 15 RF_PA_PE0 (out), 16 ANT_TRN (out), 17 WLAN_LED_N (out), 18 RF2G_OUTN1 (out), 19 RF2G_INN1 (in), 21 ANT_TRNB (out), 23 RF_PA_PE1 (out), 221 LDO_OUT4_V12D (out), 225 LDO_OUT3_V12D (in), 226 LDO_IN3_VX (in), 227 LDO_IN4_VX (in), 229 ADC_VREF (in), 230 ADC_V33A (in), 234 ADC_VREF025P (in), 235 ADC_V12D (in), 236 ADC_VREF025N (in), 237 ADC_V12A (in), 238 ADC_VREFN0 (in), 239 ADC_VREFP0 (in), 241 ADC_V12A (in), 243 ADC_V33A (in), 245 ADC_VREF (in), 246 ADC_VREF025N (in), 247 ADC_VREF025P (in), 249 ADC_V12D (in), 250 ADC_V12A (in), 251 ADC_VREFN1 (in), 253 ADC_VREFP1 (in), 254 ADC_V12A (in), 255 BASE_TRX_QN (io), 256 BASE_TRX_IN (in), 257 BASE_2_V12A (in), 258 BASE_TRX_QP (in), 259 PLL_X2 (io), 261 BASE_TRX_IP (in), 262 PLL_X1 (io), 263 LDO_OUT1_V12A (out), 265 PLL_XTAL_V33A (in), 266 LDO_IN12_VX (in), 269 LDO_OUT2_V12A (out), 270 BG_VBG (in), 273 BG_RES_12K (in), 274 BG_V33A (in), 275 PLL_VC_CAP (in), 277 PLL_DIV_V12A (in), 278 PLL_CP_V33A (in), 279 RF_RF_V33A (in), 280 PLL_PRE_V12A (in), 281 VCO_VCO_V12A (in), 282 RF_IF_V12A (in), 283 VCO_LO_V12A (in), 284 BASE_1_V12A (in)
part B pins: 20 RXD2 (in), 24 DTR_N (out), 25 RTS_N (out), 27 TXD2 (out), 28 DCD_N (in), 30 DSR_N (in), 31 TXD (out), 33 CTS_N (in), 34 RIN (in), 36 RXD (in), 37 UPHY_VRES (io), 38 UPHY_VBUS (io), 40 UPHY_PADM (io), 41 UPHY_PADP (io), 42 UPHY_ID (io), 115 SPI_DOUT (out), 116 PORST_N (in), 117 SPI_DIN (in), 119 I2C_SD (io), 120 SPI_CLK (out), 121 SPI_EN (out), 122 GPIO0 (io), 124 I2C_SCLK (out), 125 JTAG_TDO (out), 126 JTAG_TDI (in), 127 MD30 (io), 129 JTAG_TMS (in), 130 JTAG_TRST_N (in), 131 MD27 (io), 132 JTAG_TCLK (in), 135 MD23 (io), 136 MD31 (io), 137 MD28 (io), 138 MD24 (io), 139 MD29 (io), 140 MD25 (io), 141 MD21 (io), 142 MD26 (io), 143 MD22 (io), 146 MD18 (io), 147 MD19 (io), 148 SDRAM_CS_N (out), 149 SDRAM_RAS_N (out), 150 MD17 (io), 151 MD20 (io), 153 SDRAM_CLK (out), 155 MD16 (io), 156 MA16 (io), 157 MA17 (io), 158 MA18 (io), 159 MA19 (io), 160 MA13 (io), 161 MA14 (io), 162 MA15 (io), 164 MA12 (io), 165 MA11 (io), 168 MA10 (io), 169 MA9 (io), 170 MA8 (io), 172 MA7 (io), 173 MA6 (io), 174 MA5 (io), 175 MA4 (io), 176 MA3 (io), 177 MA2 (io), 178 MA1 (io), 180 MA0 (io), 181 MD15 (io), 182 MD13 (io), 183 MD12 (io), 184 MD14 (io), 186 MD10 (io), 188 MD11 (io), 189 MD9 (io), 190 MD7 (io), 191 MD8 (io), 192 MD6 (io), 193 MD4 (io), 195 MD5 (io), 196 MD3 (io), 197 MD0 (io), 198 MA20 (io), 199 MD2 (io), 200 MD1 (io), 201 MA21 (io), 205 WE_N (out), 207 MA22 (io), 208 SRAM_CS_N (out), 210 FLASH_CS_N (out), 213 OE_N (out)
part C pins: K1 GE_RXDV (in), L1 GE_RXD3 (in), L2 GE_RXD0 (in), L3 GE_RXCLK (in), M1 GE_TXCLK (out), M2 GE_RXD1 (in), M3 GE_RXD2 (in), M5 MDC (out), N1 GE_TXEN (out), N2 GE_TXD0 (out), N3 GE_TXD2 (out), N4 RGMII_IO_V33D (in), P1 GE_TXD1 (out), P2 MDIO (io), P3 GE_TXD3 (out), P4 EPHY_REF_RES (io), P5 EPHY_TXP_p1 (out), P6 EPHY_TXN_p1 (out), P7 EPHY_LED0_N (out), R1 EPHY_RXN_p0 (in), R2 EPHY_RXP_p0 (in), R3 EPHY_TXN_p0 (out), R4 EPHY_TXP_p2 (out), R5 EPHY_TXN_p2 (out), R6 EPHY_TXP_p3 (out), R7 EPHY_TXN_p3 (out), R8 EPHY_LED2_N (out), T1 EPHY_RXP_p1 (in), T2 EPHY_RXN_p2 (in), T3 EPHY_TXP_p0 (out), T4 EPHY_RXP_p3 (in), T5 EPHY_RXN_p3 (in), T6 EPHY_LED3_N (out), T7 EPHY_LED1_N (out), U1 EPHY_RXN_p1 (in), U2 EPHY_RXP_p2 (in), U3 EPHY_RXN_p4 (in), U4 EPHY_RXP_p4 (in), U5 EPHY_TXN_p4 (out), U6 EPHY_TXP_p4 (out), U7 EPHY_LED4_N (out)
part D pins: 22 SOC_CO_V12D (in), 26 SOC_IO_V33D (in), 29 SOC_IO_V33D (in), 32 SOC_CO_V12D (in), 39 UPHY_VDDA_V33A (in), 43 UPHY_VDDL_V12D (in), 45 RGMII_CO_V12D (in), 56 RGMII_CO_V12D (in), 63 EPHY_V33A (in), 74 EPHY_V33A (in), 87 EPHY_V33A (in), 93 EPHY_V33A (in), 100 EPHY_V33A (in), 105 EPHY_V33A (in), 112 SOC_CO_V12D (in), 118 SOC_IO_V33D (in), 123 SOC_CO_V12D (in), 128 SOC_IO_V33D (in), 133 SOC_IO_V33D (in), 134 SOC_IO_V33D (in), 145 SOC_IO_V33D (in), 154 SOC_CO_V12D (in), 163 SOC_CO_V12D (in), 166 SOC_IO_V33D (in), 171 SOC_CO_V12D (in), 179 SOC_CO_V12D (in), 185 SOC_IO_V33D (in), 187 SOC_CO_V12D (in), 194 SOC_CO_V12D (in), 202 BPLL_POC_V33D (in), 204 SOC_IO_V33D (in), 209 BPLL_AVDD_V12A (in), 211 BPLL_VDD_V12D (in), 218 BPLL_DVDDA_V12D (in), 220 SOC_IO_V33D (in), 222 SOC_CO_V12D (in), GND (in)

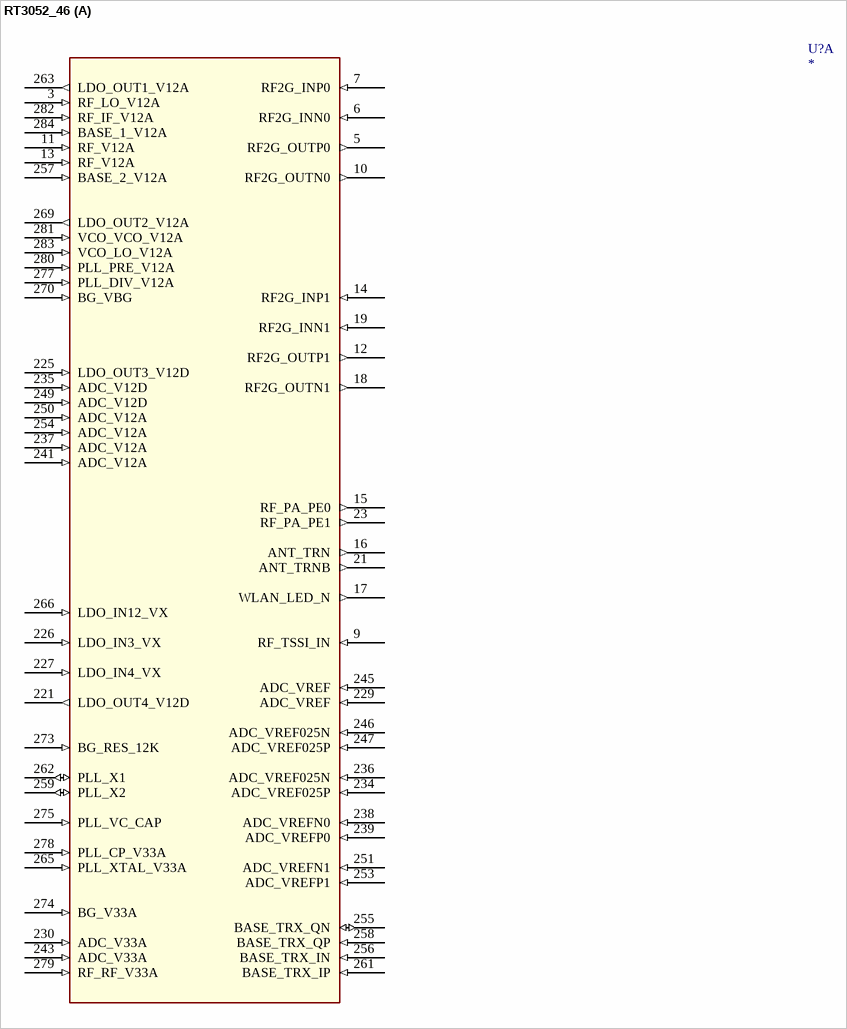
[diagram p57: symbol RT3052_46]

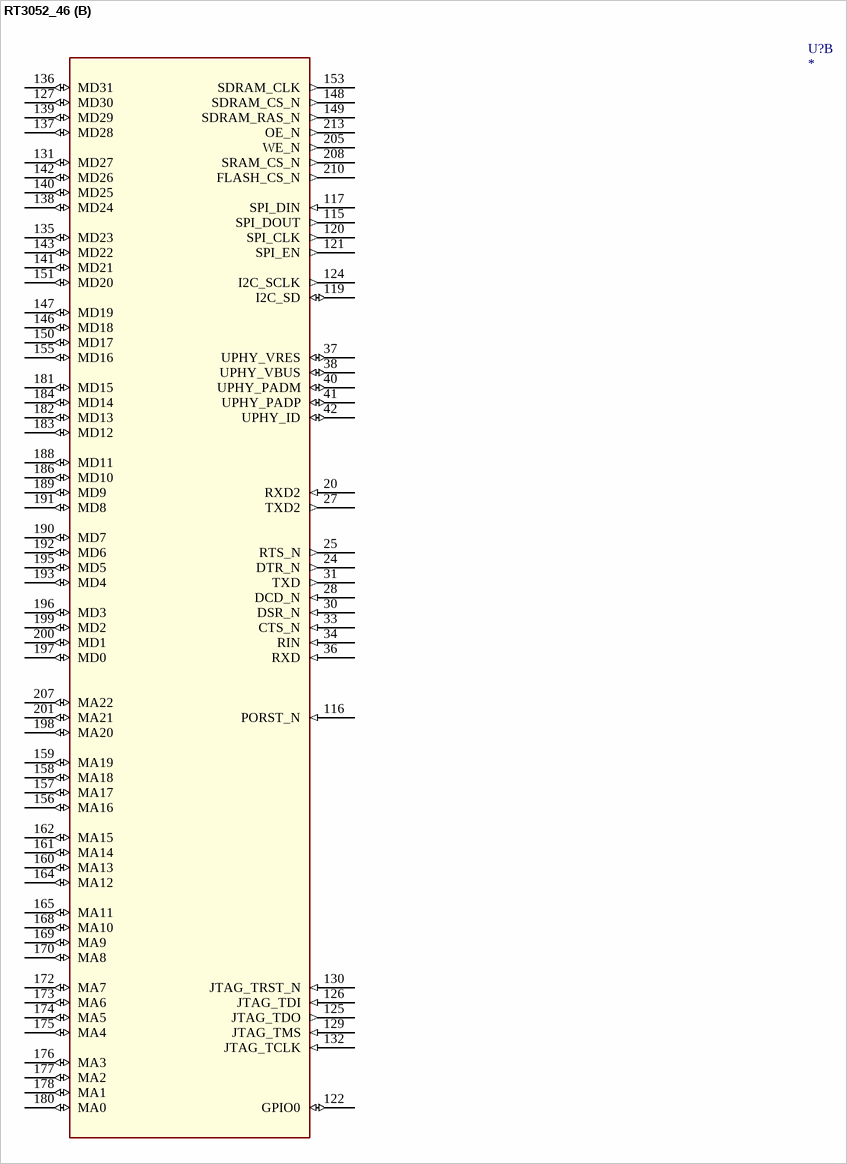
[diagram p58: symbol RT3052_46]

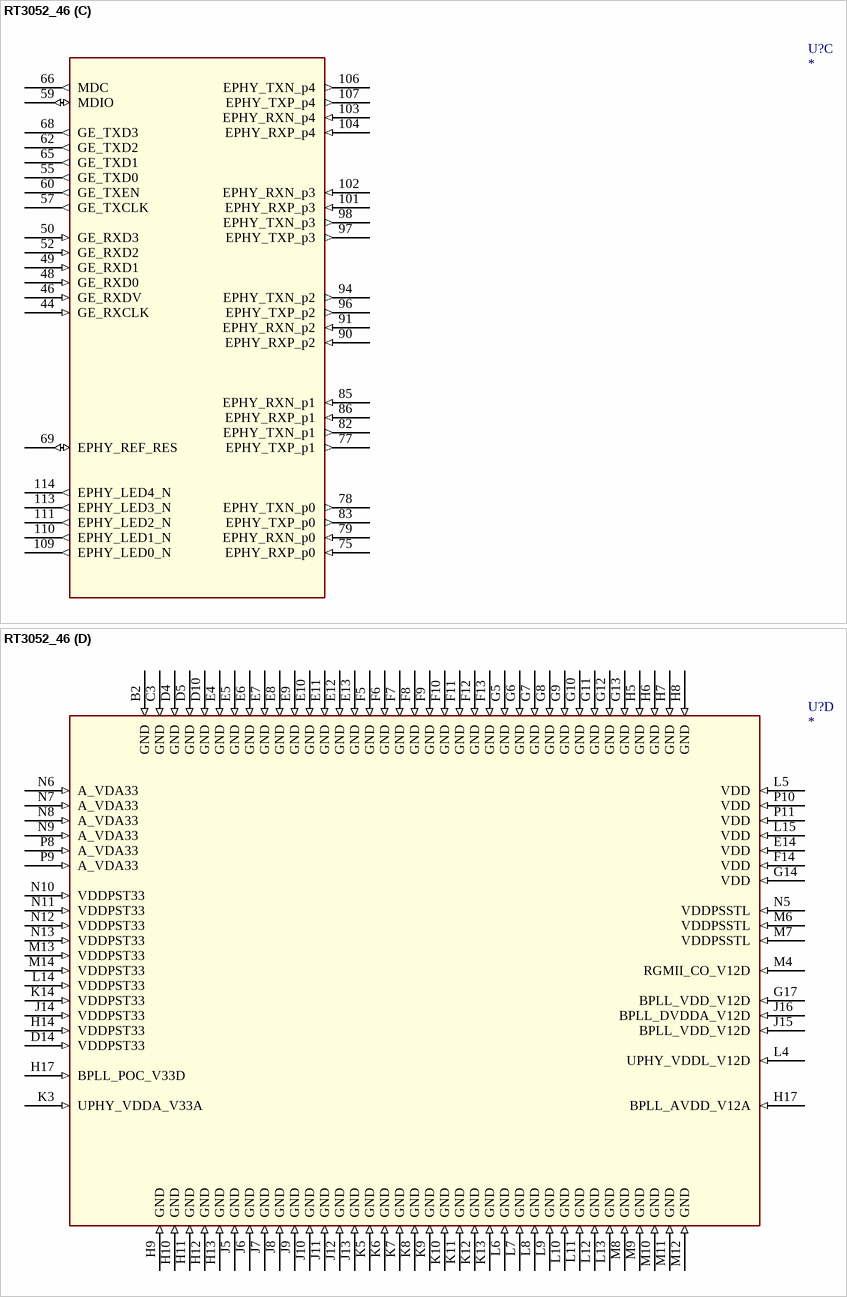
[diagram p59: symbol RT3052_46]

## RT3052_46
designator U?
Altium-Right: 180; Altium-Bottom: 630; Altium-Right1: 160; Altium-Bottom1: 720; Altium-Right2: 170; Altium-Bottom2: 360; Altium-Right3: 460; Altium-Bottom3: 340
footprint QFN285
part A pins: 3 RF_LO_V12A (in), 5 RF2G_OUTP0 (out), 6 RF2G_INN0 (in), 7 RF2G_INP0 (in), 9 RF_TSSI_IN (in), 10 RF2G_OUTN0 (out), 11 RF_V12A (in), 12 RF2G_OUTP1 (out), 13 RF_V12A (in), 14 RF2G_INP1 (in), 15 RF_PA_PE0 (out), 16 ANT_TRN (out), 17 WLAN_LED_N (out), 18 RF2G_OUTN1 (out), 19 RF2G_INN1 (in), 21 ANT_TRNB (out), 23 RF_PA_PE1 (out), 221 LDO_OUT4_V12D (out), 225 LDO_OUT3_V12D (in), 226 LDO_IN3_VX (in), 227 LDO_IN4_VX (in), 229 ADC_VREF (in), 230 ADC_V33A (in), 234 ADC_VREF025P (in), 235 ADC_V12D (in), 236 ADC_VREF025N (in), 237 ADC_V12A (in), 238 ADC_VREFN0 (in), 239 ADC_VREFP0 (in), 241 ADC_V12A (in), 243 ADC_V33A (in), 245 ADC_VREF (in), 246 ADC_VREF025N (in), 247 ADC_VREF025P (in), 249 ADC_V12D (in), 250 ADC_V12A (in), 251 ADC_VREFN1 (in), 253 ADC_VREFP1 (in), 254 ADC_V12A (in), 255 BASE_TRX_QN (io), 256 BASE_TRX_IN (in), 257 BASE_2_V12A (in), 258 BASE_TRX_QP (in), 259 PLL_X2 (io), 261 BASE_TRX_IP (in), 262 PLL_X1 (io), 263 LDO_OUT1_V12A (out), 265 PLL_XTAL_V33A (in), 266 LDO_IN12_VX (in), 269 LDO_OUT2_V12A (out), 270 BG_VBG (in), 273 BG_RES_12K (in), 274 BG_V33A (in), 275 PLL_VC_CAP (in), 277 PLL_DIV_V12A (in), 278 PLL_CP_V33A (in), 279 RF_RF_V33A (in), 280 PLL_PRE_V12A (in), 281 VCO_VCO_V12A (in), 282 RF_IF_V12A (in), 283 VCO_LO_V12A (in), 284 BASE_1_V12A (in)
part B pins: 20 RXD2 (in), 24 DTR_N (out), 25 RTS_N (out), 27 TXD2 (out), 28 DCD_N (in), 30 DSR_N (in), 31 TXD (out), 33 CTS_N (in), 34 RIN (in), 36 RXD (in), 37 UPHY_VRES (io), 38 UPHY_VBUS (io), 40 UPHY_PADM (io), 41 UPHY_PADP (io), 42 UPHY_ID (io), 115 SPI_DOUT (out), 116 PORST_N (in), 117 SPI_DIN (in), 119 I2C_SD (io), 120 SPI_CLK (out), 121 SPI_EN (out), 122 GPIO0 (io), 124 I2C_SCLK (out), 125 JTAG_TDO (out), 126 JTAG_TDI (in), 127 MD30 (io), 129 JTAG_TMS (in), 130 JTAG_TRST_N (in), 131 MD27 (io), 132 JTAG_TCLK (in), 135 MD23 (io), 136 MD31 (io), 137 MD28 (io), 138 MD24 (io), 139 MD29 (io), 140 MD25 (io), 141 MD21 (io), 142 MD26 (io), 143 MD22 (io), 146 MD18 (io), 147 MD19 (io), 148 SDRAM_CS_N (out), 149 SDRAM_RAS_N (out), 150 MD17 (io), 151 MD20 (io), 153 SDRAM_CLK (out), 155 MD16 (io), 156 MA16 (io), 157 MA17 (io), 158 MA18 (io), 159 MA19 (io), 160 MA13 (io), 161 MA14 (io), 162 MA15 (io), 164 MA12 (io), 165 MA11 (io), 168 MA10 (io), 169 MA9 (io), 170 MA8 (io), 172 MA7 (io), 173 MA6 (io), 174 MA5 (io), 175 MA4 (io), 176 MA3 (io), 177 MA2 (io), 178 MA1 (io), 180 MA0 (io), 181 MD15 (io), 182 MD13 (io), 183 MD12 (io), 184 MD14 (io), 186 MD10 (io), 188 MD11 (io), 189 MD9 (io), 190 MD7 (io), 191 MD8 (io), 192 MD6 (io), 193 MD4 (io), 195 MD5 (io), 196 MD3 (io), 197 MD0 (io), 198 MA20 (io), 199 MD2 (io), 200 MD1 (io), 201 MA21 (io), 205 WE_N (out), 207 MA22 (io), 208 SRAM_CS_N (out), 210 FLASH_CS_N (out), 213 OE_N (out)
part C pins: 44 GE_RXCLK (in), 46 GE_RXDV (in), 48 GE_RXD0 (in), 49 GE_RXD1 (in), 50 GE_RXD3 (in), 52 GE_RXD2 (in), 55 GE_TXD0 (out), 57 GE_TXCLK (out), 59 MDIO (io), 60 GE_TXEN (out), 62 GE_TXD2 (out), 65 GE_TXD1 (out), 66 MDC (out), 68 GE_TXD3 (out), 69 EPHY_REF_RES (io), 75 EPHY_RXP_p0 (in), 77 EPHY_TXP_p1 (out), 78 EPHY_TXN_p0 (out), 79 EPHY_RXN_p0 (in), 82 EPHY_TXN_p1 (out), 83 EPHY_TXP_p0 (out), 85 EPHY_RXN_p1 (in), 86 EPHY_RXP_p1 (in), 90 EPHY_RXP_p2 (in), 91 EPHY_RXN_p2 (in), 94 EPHY_TXN_p2 (out), 96 EPHY_TXP_p2 (out), 97 EPHY_TXP_p3 (out), 98 EPHY_TXN_p3 (out), 101 EPHY_RXP_p3 (in), 102 EPHY_RXN_p3 (in), 103 EPHY_RXN_p4 (in), 104 EPHY_RXP_p4 (in), 106 EPHY_TXN_p4 (out), 107 EPHY_TXP_p4 (out), 109 EPHY_LED0_N (out), 110 EPHY_LED1_N (out), 111 EPHY_LED2_N (out), 113 EPHY_LED3_N (out), 114 EPHY_LED4_N (out)
part D pins: B2 GND (in), C3 GND (in), D4 GND (in), D5 GND (in), D10 GND (in), D14 VDDPST33 (in), E4 GND (in), E5 GND (in), E6 GND (in), E7 GND (in), E8 GND (in), E9 GND (in), E10 GND (in), E11 GND (in), E12 GND (in), E13 GND (in), E14 VDD (in), F5 GND (in), F6 GND (in), F7 GND (in), F8 GND (in), F9 GND (in), F10 GND (in), F11 GND (in), F12 GND (in), F13 GND (in), F14 VDD (in), G5 GND (in), G6 GND (in), G7 GND (in), G8 GND (in), G9 GND (in), G10 GND (in), G11 GND (in), G12 GND (in), G13 GND (in), G14 VDD (in), G17 BPLL_VDD_V12D (in), H5 GND (in), H6 GND (in), H7 GND (in), H8 GND (in), H9 GND (in), H10 GND (in), H11 GND (in), H12 GND (in), H13 GND (in), H14 VDDPST33 (in), H17 BPLL_POC_V33D (in), H17 BPLL_AVDD_V12A (in), J5 GND (in), J6 GND (in), J7 GND (in), J8 GND (in), J9 GND (in), J10 GND (in), J11 GND (in), J12 GND (in), J13 GND (in), J14 VDDPST33 (in), J15 BPLL_VDD_V12D (in), J16 BPLL_DVDDA_V12D (in), K3 UPHY_VDDA_V33A (in), K5 GND (in), K6 GND (in), K7 GND (in), K8 GND (in), K9 GND (in), K10 GND (in), K11 GND (in), K12 GND (in), K13 GND (in), K14 VDDPST33 (in), L4 UPHY_VDDL_V12D (in), L5 VDD (in), L6 GND (in), L7 GND (in), L8 GND (in), L9 GND (in), L10 GND (in), L11 GND (in), L12 GND (in), L13 GND (in), L14 VDDPST33 (in), L15 VDD (in), M4 RGMII_CO_V12D (in), M6 VDDPSSTL (in), M7 VDDPSSTL (in), M8 GND (in), M9 GND (in), M10 GND (in), M11 GND (in), M12 GND (in), M13 VDDPST33 (in), M14 VDDPST33 (in), N5 VDDPSSTL (in), N6 A_VDA33 (in), N7 A_VDA33 (in), N8 A_VDA33 (in), N9 A_VDA33 (in), N10 VDDPST33 (in), N11 VDDPST33 (in), N12 VDDPST33 (in), N13 VDDPST33 (in), P8 A_VDA33 (in), P9 A_VDA33 (in), P10 VDD (in), P11 VDD (in)

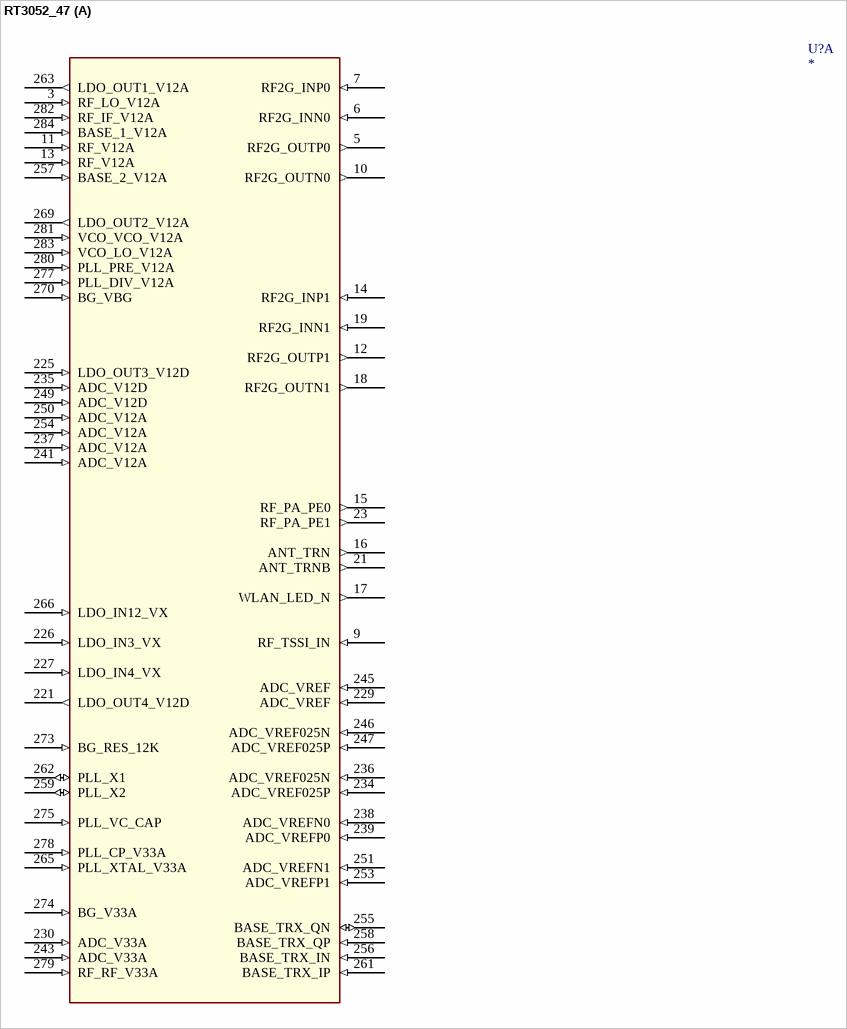
[diagram p60: symbol RT3052_47]

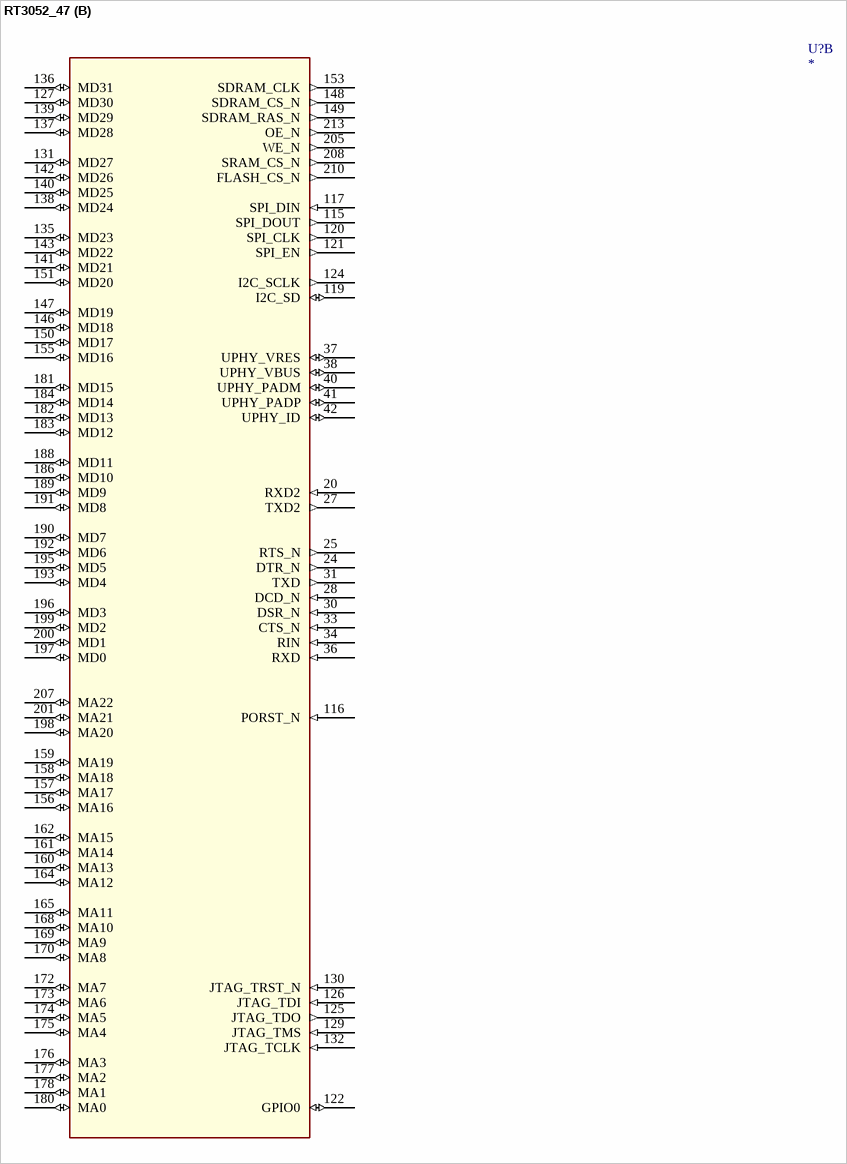
[diagram p61: symbol RT3052_47]

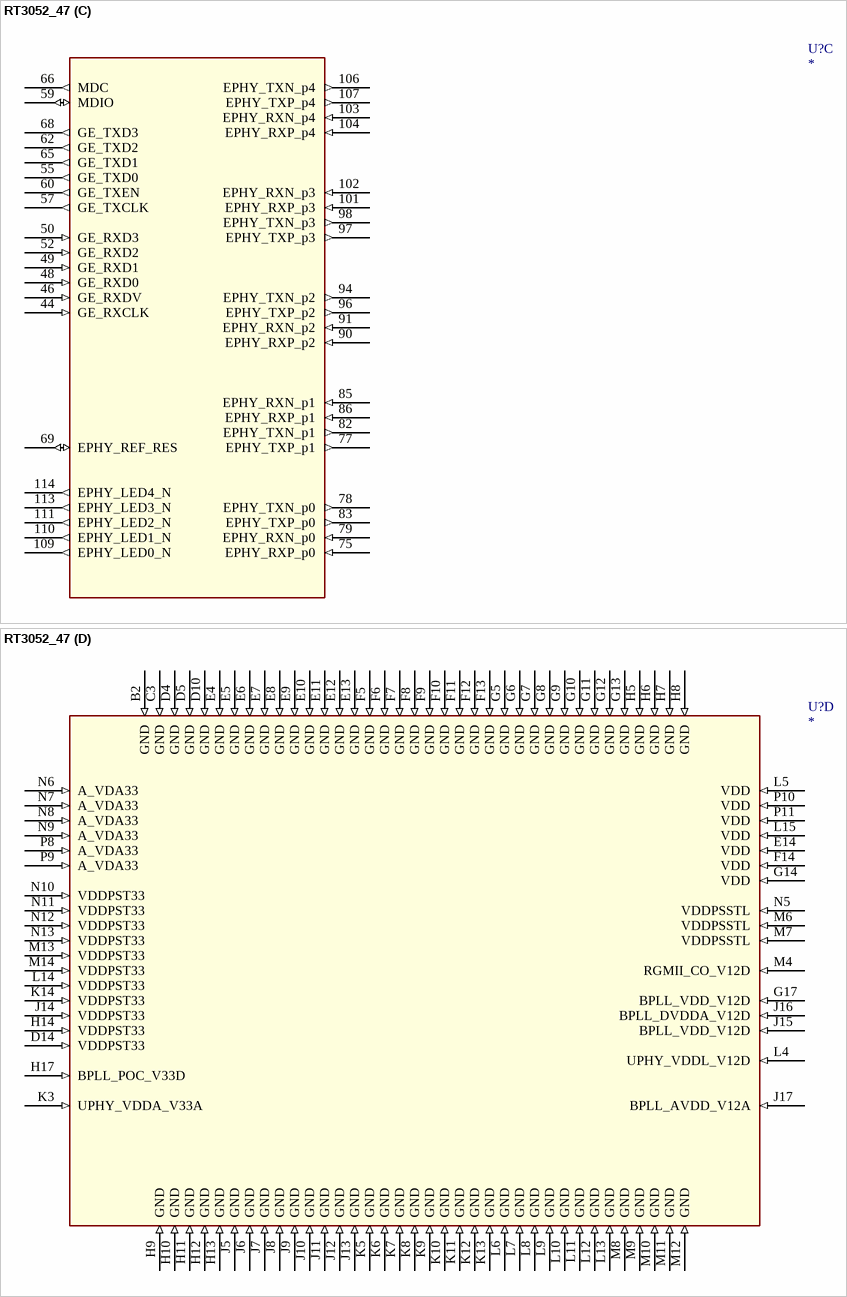
[diagram p62: symbol RT3052_47]

## RT3052_47
designator U?
Altium-Right: 180; Altium-Bottom: 630; Altium-Right1: 160; Altium-Bottom1: 720; Altium-Right2: 170; Altium-Bottom2: 360; Altium-Right3: 460; Altium-Bottom3: 340
footprint QFN285
part A pins: 3 RF_LO_V12A (in), 5 RF2G_OUTP0 (out), 6 RF2G_INN0 (in), 7 RF2G_INP0 (in), 9 RF_TSSI_IN (in), 10 RF2G_OUTN0 (out), 11 RF_V12A (in), 12 RF2G_OUTP1 (out), 13 RF_V12A (in), 14 RF2G_INP1 (in), 15 RF_PA_PE0 (out), 16 ANT_TRN (out), 17 WLAN_LED_N (out), 18 RF2G_OUTN1 (out), 19 RF2G_INN1 (in), 21 ANT_TRNB (out), 23 RF_PA_PE1 (out), 221 LDO_OUT4_V12D (out), 225 LDO_OUT3_V12D (in), 226 LDO_IN3_VX (in), 227 LDO_IN4_VX (in), 229 ADC_VREF (in), 230 ADC_V33A (in), 234 ADC_VREF025P (in), 235 ADC_V12D (in), 236 ADC_VREF025N (in), 237 ADC_V12A (in), 238 ADC_VREFN0 (in), 239 ADC_VREFP0 (in), 241 ADC_V12A (in), 243 ADC_V33A (in), 245 ADC_VREF (in), 246 ADC_VREF025N (in), 247 ADC_VREF025P (in), 249 ADC_V12D (in), 250 ADC_V12A (in), 251 ADC_VREFN1 (in), 253 ADC_VREFP1 (in), 254 ADC_V12A (in), 255 BASE_TRX_QN (io), 256 BASE_TRX_IN (in), 257 BASE_2_V12A (in), 258 BASE_TRX_QP (in), 259 PLL_X2 (io), 261 BASE_TRX_IP (in), 262 PLL_X1 (io), 263 LDO_OUT1_V12A (out), 265 PLL_XTAL_V33A (in), 266 LDO_IN12_VX (in), 269 LDO_OUT2_V12A (out), 270 BG_VBG (in), 273 BG_RES_12K (in), 274 BG_V33A (in), 275 PLL_VC_CAP (in), 277 PLL_DIV_V12A (in), 278 PLL_CP_V33A (in), 279 RF_RF_V33A (in), 280 PLL_PRE_V12A (in), 281 VCO_VCO_V12A (in), 282 RF_IF_V12A (in), 283 VCO_LO_V12A (in), 284 BASE_1_V12A (in)
part B pins: 20 RXD2 (in), 24 DTR_N (out), 25 RTS_N (out), 27 TXD2 (out), 28 DCD_N (in), 30 DSR_N (in), 31 TXD (out), 33 CTS_N (in), 34 RIN (in), 36 RXD (in), 37 UPHY_VRES (io), 38 UPHY_VBUS (io), 40 UPHY_PADM (io), 41 UPHY_PADP (io), 42 UPHY_ID (io), 115 SPI_DOUT (out), 116 PORST_N (in), 117 SPI_DIN (in), 119 I2C_SD (io), 120 SPI_CLK (out), 121 SPI_EN (out), 122 GPIO0 (io), 124 I2C_SCLK (out), 125 JTAG_TDO (out), 126 JTAG_TDI (in), 127 MD30 (io), 129 JTAG_TMS (in), 130 JTAG_TRST_N (in), 131 MD27 (io), 132 JTAG_TCLK (in), 135 MD23 (io), 136 MD31 (io), 137 MD28 (io), 138 MD24 (io), 139 MD29 (io), 140 MD25 (io), 141 MD21 (io), 142 MD26 (io), 143 MD22 (io), 146 MD18 (io), 147 MD19 (io), 148 SDRAM_CS_N (out), 149 SDRAM_RAS_N (out), 150 MD17 (io), 151 MD20 (io), 153 SDRAM_CLK (out), 155 MD16 (io), 156 MA16 (io), 157 MA17 (io), 158 MA18 (io), 159 MA19 (io), 160 MA13 (io), 161 MA14 (io), 162 MA15 (io), 164 MA12 (io), 165 MA11 (io), 168 MA10 (io), 169 MA9 (io), 170 MA8 (io), 172 MA7 (io), 173 MA6 (io), 174 MA5 (io), 175 MA4 (io), 176 MA3 (io), 177 MA2 (io), 178 MA1 (io), 180 MA0 (io), 181 MD15 (io), 182 MD13 (io), 183 MD12 (io), 184 MD14 (io), 186 MD10 (io), 188 MD11 (io), 189 MD9 (io), 190 MD7 (io), 191 MD8 (io), 192 MD6 (io), 193 MD4 (io), 195 MD5 (io), 196 MD3 (io), 197 MD0 (io), 198 MA20 (io), 199 MD2 (io), 200 MD1 (io), 201 MA21 (io), 205 WE_N (out), 207 MA22 (io), 208 SRAM_CS_N (out), 210 FLASH_CS_N (out), 213 OE_N (out)
part C pins: 44 GE_RXCLK (in), 46 GE_RXDV (in), 48 GE_RXD0 (in), 49 GE_RXD1 (in), 50 GE_RXD3 (in), 52 GE_RXD2 (in), 55 GE_TXD0 (out), 57 GE_TXCLK (out), 59 MDIO (io), 60 GE_TXEN (out), 62 GE_TXD2 (out), 65 GE_TXD1 (out), 66 MDC (out), 68 GE_TXD3 (out), 69 EPHY_REF_RES (io), 75 EPHY_RXP_p0 (in), 77 EPHY_TXP_p1 (out), 78 EPHY_TXN_p0 (out), 79 EPHY_RXN_p0 (in), 82 EPHY_TXN_p1 (out), 83 EPHY_TXP_p0 (out), 85 EPHY_RXN_p1 (in), 86 EPHY_RXP_p1 (in), 90 EPHY_RXP_p2 (in), 91 EPHY_RXN_p2 (in), 94 EPHY_TXN_p2 (out), 96 EPHY_TXP_p2 (out), 97 EPHY_TXP_p3 (out), 98 EPHY_TXN_p3 (out), 101 EPHY_RXP_p3 (in), 102 EPHY_RXN_p3 (in), 103 EPHY_RXN_p4 (in), 104 EPHY_RXP_p4 (in), 106 EPHY_TXN_p4 (out), 107 EPHY_TXP_p4 (out), 109 EPHY_LED0_N (out), 110 EPHY_LED1_N (out), 111 EPHY_LED2_N (out), 113 EPHY_LED3_N (out), 114 EPHY_LED4_N (out)
part D pins: B2 GND (in), C3 GND (in), D4 GND (in), D5 GND (in), D10 GND (in), D14 VDDPST33 (in), E4 GND (in), E5 GND (in), E6 GND (in), E7 GND (in), E8 GND (in), E9 GND (in), E10 GND (in), E11 GND (in), E12 GND (in), E13 GND (in), E14 VDD (in), F5 GND (in), F6 GND (in), F7 GND (in), F8 GND (in), F9 GND (in), F10 GND (in), F11 GND (in), F12 GND (in), F13 GND (in), F14 VDD (in), G5 GND (in), G6 GND (in), G7 GND (in), G8 GND (in), G9 GND (in), G10 GND (in), G11 GND (in), G12 GND (in), G13 GND (in), G14 VDD (in), G17 BPLL_VDD_V12D (in), H5 GND (in), H6 GND (in), H7 GND (in), H8 GND (in), H9 GND (in), H10 GND (in), H11 GND (in), H12 GND (in), H13 GND (in), H14 VDDPST33 (in), H17 BPLL_POC_V33D (in), J5 GND (in), J6 GND (in), J7 GND (in), J8 GND (in), J9 GND (in), J10 GND (in), J11 GND (in), J12 GND (in), J13 GND (in), J14 VDDPST33 (in), J15 BPLL_VDD_V12D (in), J16 BPLL_DVDDA_V12D (in), J17 BPLL_AVDD_V12A (in), K3 UPHY_VDDA_V33A (in), K5 GND (in), K6 GND (in), K7 GND (in), K8 GND (in), K9 GND (in), K10 GND (in), K11 GND (in), K12 GND (in), K13 GND (in), K14 VDDPST33 (in), L4 UPHY_VDDL_V12D (in), L5 VDD (in), L6 GND (in), L7 GND (in), L8 GND (in), L9 GND (in), L10 GND (in), L11 GND (in), L12 GND (in), L13 GND (in), L14 VDDPST33 (in), L15 VDD (in), M4 RGMII_CO_V12D (in), M6 VDDPSSTL (in), M7 VDDPSSTL (in), M8 GND (in), M9 GND (in), M10 GND (in), M11 GND (in), M12 GND (in), M13 VDDPST33 (in), M14 VDDPST33 (in), N5 VDDPSSTL (in), N6 A_VDA33 (in), N7 A_VDA33 (in), N8 A_VDA33 (in), N9 A_VDA33 (in), N10 VDDPST33 (in), N11 VDDPST33 (in), N12 VDDPST33 (in), N13 VDDPST33 (in), P8 A_VDA33 (in), P9 A_VDA33 (in), P10 VDD (in), P11 VDD (in)

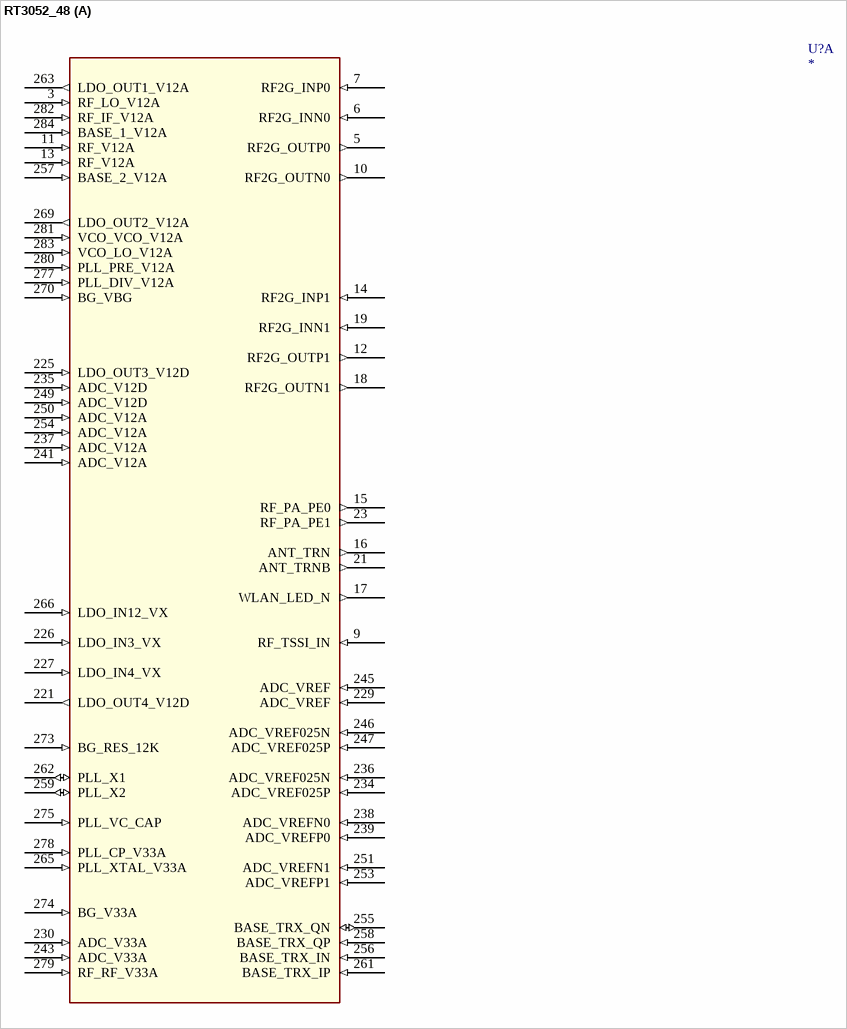
[diagram p63: symbol RT3052_48]

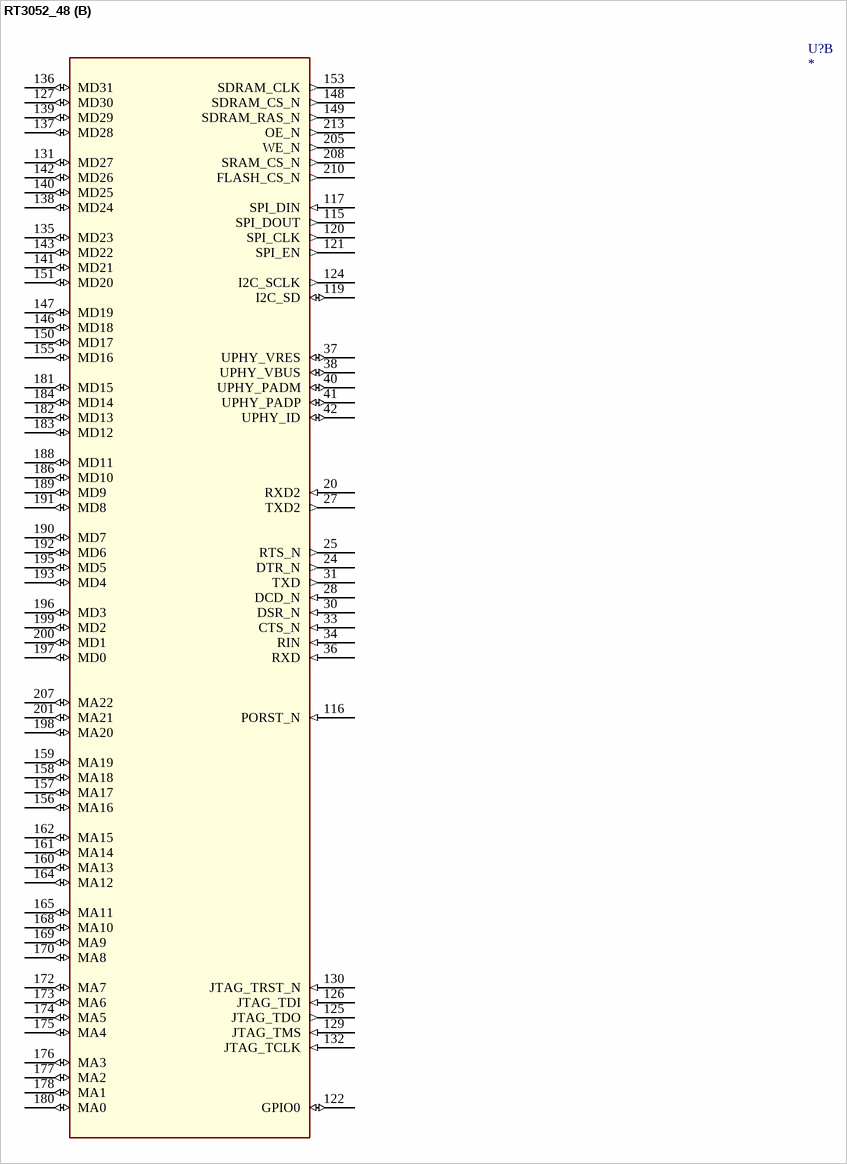
[diagram p64: symbol RT3052_48]

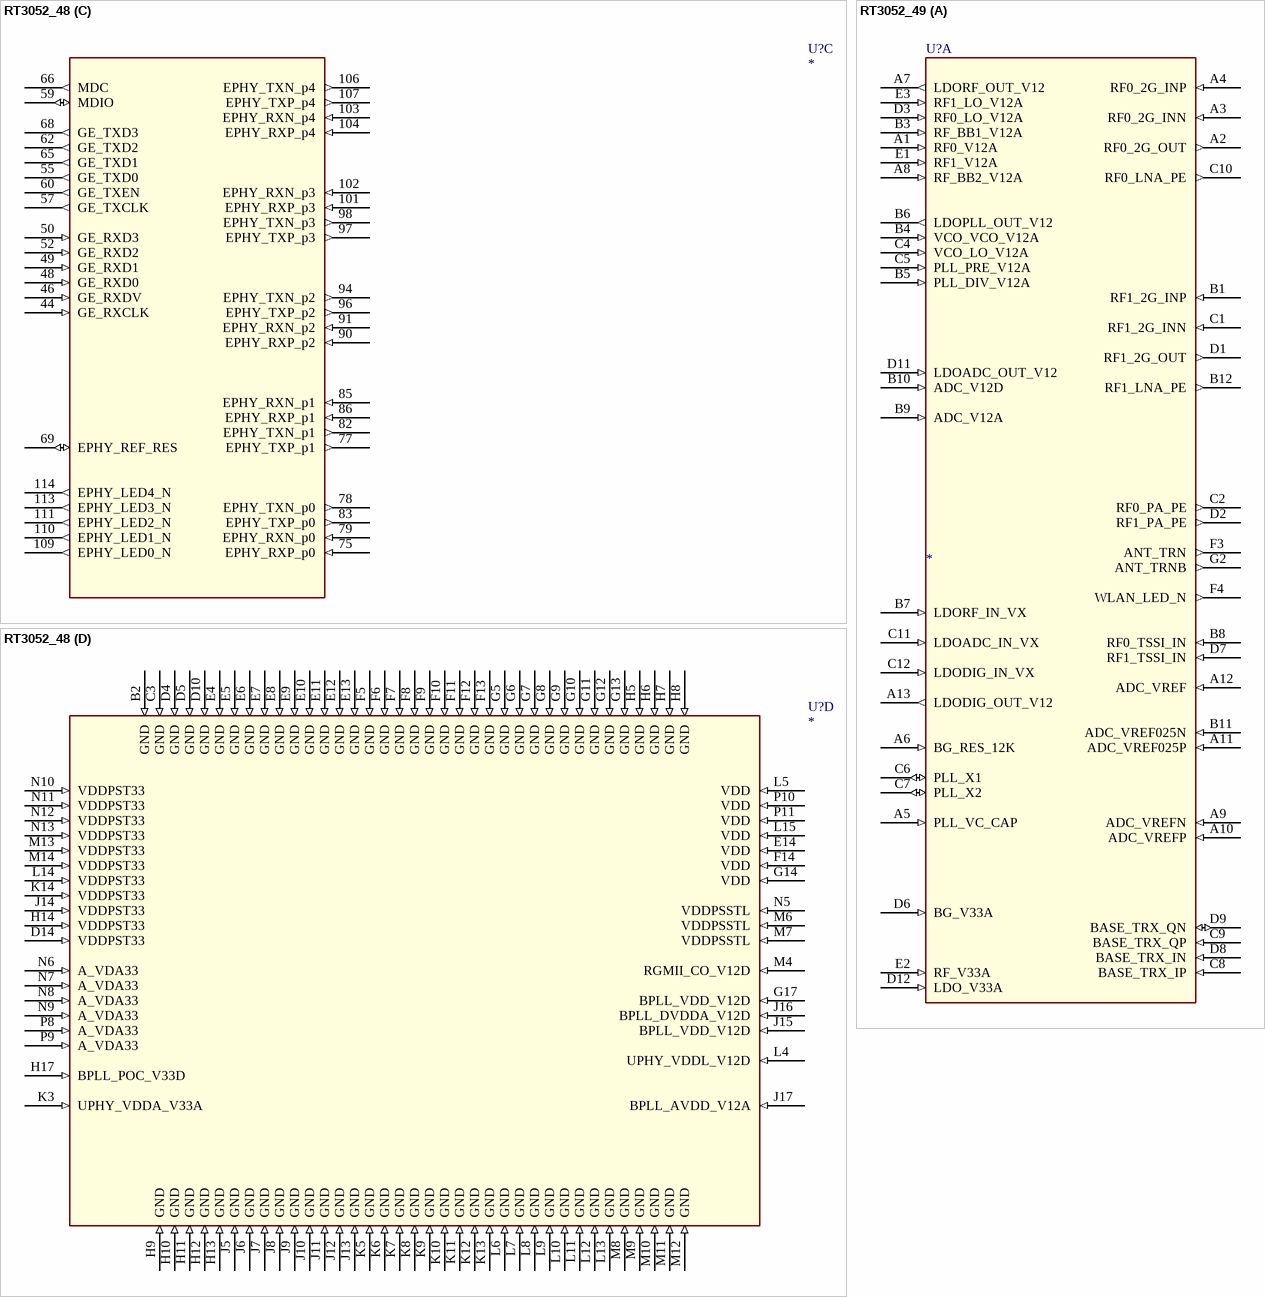
[diagram p65: symbols RT3052_48 to RT3052_49]

## RT3052_48
designator U?
Altium-Right: 180; Altium-Bottom: 630; Altium-Right1: 160; Altium-Bottom1: 720; Altium-Right2: 170; Altium-Bottom2: 360; Altium-Right3: 460; Altium-Bottom3: 340
footprint QFN285
part A pins: 3 RF_LO_V12A (in), 5 RF2G_OUTP0 (out), 6 RF2G_INN0 (in), 7 RF2G_INP0 (in), 9 RF_TSSI_IN (in), 10 RF2G_OUTN0 (out), 11 RF_V12A (in), 12 RF2G_OUTP1 (out), 13 RF_V12A (in), 14 RF2G_INP1 (in), 15 RF_PA_PE0 (out), 16 ANT_TRN (out), 17 WLAN_LED_N (out), 18 RF2G_OUTN1 (out), 19 RF2G_INN1 (in), 21 ANT_TRNB (out), 23 RF_PA_PE1 (out), 221 LDO_OUT4_V12D (out), 225 LDO_OUT3_V12D (in), 226 LDO_IN3_VX (in), 227 LDO_IN4_VX (in), 229 ADC_VREF (in), 230 ADC_V33A (in), 234 ADC_VREF025P (in), 235 ADC_V12D (in), 236 ADC_VREF025N (in), 237 ADC_V12A (in), 238 ADC_VREFN0 (in), 239 ADC_VREFP0 (in), 241 ADC_V12A (in), 243 ADC_V33A (in), 245 ADC_VREF (in), 246 ADC_VREF025N (in), 247 ADC_VREF025P (in), 249 ADC_V12D (in), 250 ADC_V12A (in), 251 ADC_VREFN1 (in), 253 ADC_VREFP1 (in), 254 ADC_V12A (in), 255 BASE_TRX_QN (io), 256 BASE_TRX_IN (in), 257 BASE_2_V12A (in), 258 BASE_TRX_QP (in), 259 PLL_X2 (io), 261 BASE_TRX_IP (in), 262 PLL_X1 (io), 263 LDO_OUT1_V12A (out), 265 PLL_XTAL_V33A (in), 266 LDO_IN12_VX (in), 269 LDO_OUT2_V12A (out), 270 BG_VBG (in), 273 BG_RES_12K (in), 274 BG_V33A (in), 275 PLL_VC_CAP (in), 277 PLL_DIV_V12A (in), 278 PLL_CP_V33A (in), 279 RF_RF_V33A (in), 280 PLL_PRE_V12A (in), 281 VCO_VCO_V12A (in), 282 RF_IF_V12A (in), 283 VCO_LO_V12A (in), 284 BASE_1_V12A (in)
part B pins: 20 RXD2 (in), 24 DTR_N (out), 25 RTS_N (out), 27 TXD2 (out), 28 DCD_N (in), 30 DSR_N (in), 31 TXD (out), 33 CTS_N (in), 34 RIN (in), 36 RXD (in), 37 UPHY_VRES (io), 38 UPHY_VBUS (io), 40 UPHY_PADM (io), 41 UPHY_PADP (io), 42 UPHY_ID (io), 115 SPI_DOUT (out), 116 PORST_N (in), 117 SPI_DIN (in), 119 I2C_SD (io), 120 SPI_CLK (out), 121 SPI_EN (out), 122 GPIO0 (io), 124 I2C_SCLK (out), 125 JTAG_TDO (out), 126 JTAG_TDI (in), 127 MD30 (io), 129 JTAG_TMS (in), 130 JTAG_TRST_N (in), 131 MD27 (io), 132 JTAG_TCLK (in), 135 MD23 (io), 136 MD31 (io), 137 MD28 (io), 138 MD24 (io), 139 MD29 (io), 140 MD25 (io), 141 MD21 (io), 142 MD26 (io), 143 MD22 (io), 146 MD18 (io), 147 MD19 (io), 148 SDRAM_CS_N (out), 149 SDRAM_RAS_N (out), 150 MD17 (io), 151 MD20 (io), 153 SDRAM_CLK (out), 155 MD16 (io), 156 MA16 (io), 157 MA17 (io), 158 MA18 (io), 159 MA19 (io), 160 MA13 (io), 161 MA14 (io), 162 MA15 (io), 164 MA12 (io), 165 MA11 (io), 168 MA10 (io), 169 MA9 (io), 170 MA8 (io), 172 MA7 (io), 173 MA6 (io), 174 MA5 (io), 175 MA4 (io), 176 MA3 (io), 177 MA2 (io), 178 MA1 (io), 180 MA0 (io), 181 MD15 (io), 182 MD13 (io), 183 MD12 (io), 184 MD14 (io), 186 MD10 (io), 188 MD11 (io), 189 MD9 (io), 190 MD7 (io), 191 MD8 (io), 192 MD6 (io), 193 MD4 (io), 195 MD5 (io), 196 MD3 (io), 197 MD0 (io), 198 MA20 (io), 199 MD2 (io), 200 MD1 (io), 201 MA21 (io), 205 WE_N (out), 207 MA22 (io), 208 SRAM_CS_N (out), 210 FLASH_CS_N (out), 213 OE_N (out)
part C pins: 44 GE_RXCLK (in), 46 GE_RXDV (in), 48 GE_RXD0 (in), 49 GE_RXD1 (in), 50 GE_RXD3 (in), 52 GE_RXD2 (in), 55 GE_TXD0 (out), 57 GE_TXCLK (out), 59 MDIO (io), 60 GE_TXEN (out), 62 GE_TXD2 (out), 65 GE_TXD1 (out), 66 MDC (out), 68 GE_TXD3 (out), 69 EPHY_REF_RES (io), 75 EPHY_RXP_p0 (in), 77 EPHY_TXP_p1 (out), 78 EPHY_TXN_p0 (out), 79 EPHY_RXN_p0 (in), 82 EPHY_TXN_p1 (out), 83 EPHY_TXP_p0 (out), 85 EPHY_RXN_p1 (in), 86 EPHY_RXP_p1 (in), 90 EPHY_RXP_p2 (in), 91 EPHY_RXN_p2 (in), 94 EPHY_TXN_p2 (out), 96 EPHY_TXP_p2 (out), 97 EPHY_TXP_p3 (out), 98 EPHY_TXN_p3 (out), 101 EPHY_RXP_p3 (in), 102 EPHY_RXN_p3 (in), 103 EPHY_RXN_p4 (in), 104 EPHY_RXP_p4 (in), 106 EPHY_TXN_p4 (out), 107 EPHY_TXP_p4 (out), 109 EPHY_LED0_N (out), 110 EPHY_LED1_N (out), 111 EPHY_LED2_N (out), 113 EPHY_LED3_N (out), 114 EPHY_LED4_N (out)
part D pins: B2 GND (in), C3 GND (in), D4 GND (in), D5 GND (in), D10 GND (in), D14 VDDPST33 (in), E4 GND (in), E5 GND (in), E6 GND (in), E7 GND (in), E8 GND (in), E9 GND (in), E10 GND (in), E11 GND (in), E12 GND (in), E13 GND (in), E14 VDD (in), F5 GND (in), F6 GND (in), F7 GND (in), F8 GND (in), F9 GND (in), F10 GND (in), F11 GND (in), F12 GND (in), F13 GND (in), F14 VDD (in), G5 GND (in), G6 GND (in), G7 GND (in), G8 GND (in), G9 GND (in), G10 GND (in), G11 GND (in), G12 GND (in), G13 GND (in), G14 VDD (in), G17 BPLL_VDD_V12D (in), H5 GND (in), H6 GND (in), H7 GND (in), H8 GND (in), H9 GND (in), H10 GND (in), H11 GND (in), H12 GND (in), H13 GND (in), H14 VDDPST33 (in), H17 BPLL_POC_V33D (in), J5 GND (in), J6 GND (in), J7 GND (in), J8 GND (in), J9 GND (in), J10 GND (in), J11 GND (in), J12 GND (in), J13 GND (in), J14 VDDPST33 (in), J15 BPLL_VDD_V12D (in), J16 BPLL_DVDDA_V12D (in), J17 BPLL_AVDD_V12A (in), K3 UPHY_VDDA_V33A (in), K5 GND (in), K6 GND (in), K7 GND (in), K8 GND (in), K9 GND (in), K10 GND (in), K11 GND (in), K12 GND (in), K13 GND (in), K14 VDDPST33 (in), L4 UPHY_VDDL_V12D (in), L5 VDD (in), L6 GND (in), L7 GND (in), L8 GND (in), L9 GND (in), L10 GND (in), L11 GND (in), L12 GND (in), L13 GND (in), L14 VDDPST33 (in), L15 VDD (in), M4 RGMII_CO_V12D (in), M6 VDDPSSTL (in), M7 VDDPSSTL (in), M8 GND (in), M9 GND (in), M10 GND (in), M11 GND (in), M12 GND (in), M13 VDDPST33 (in), M14 VDDPST33 (in), N5 VDDPSSTL (in), N6 A_VDA33 (in), N7 A_VDA33 (in), N8 A_VDA33 (in), N9 A_VDA33 (in), N10 VDDPST33 (in), N11 VDDPST33 (in), N12 VDDPST33 (in), N13 VDDPST33 (in), P8 A_VDA33 (in), P9 A_VDA33 (in), P10 VDD (in), P11 VDD (in)

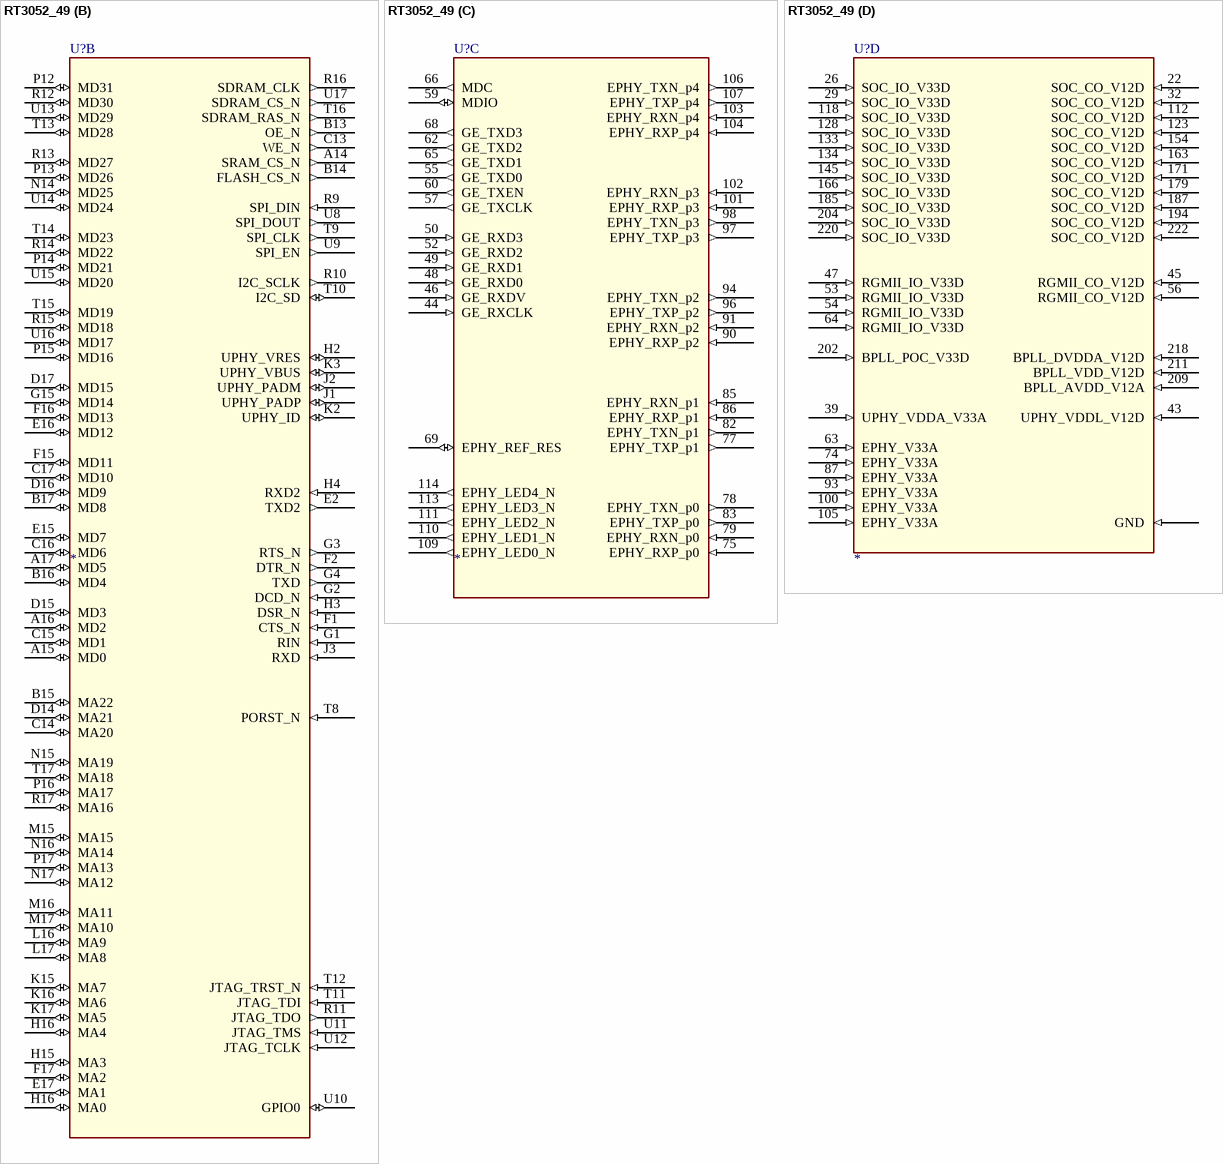
[diagram p66: symbol RT3052_49]

## RT3052_49
designator U?
Altium-Right: 160; Altium-Bottom: 720; Altium-Right1: 170; Altium-Bottom1: 360; Altium-Right2: 200; Altium-Bottom2: 330; Altium-Right3: 180; Altium-Bottom3: 630
footprint QFN285
part A pins: A1 RF0_V12A (in), A2 RF0_2G_OUT (out), A3 RF0_2G_INN (in), A4 RF0_2G_INP (in), A5 PLL_VC_CAP (in), A6 BG_RES_12K (in), A7 LDORF_OUT_V12 (out), A8 RF_BB2_V12A (in), A9 ADC_VREFN (in), A10 ADC_VREFP (in), A11 ADC_VREF025P (in), A12 ADC_VREF (in), A13 LDODIG_OUT_V12 (out), B1 RF1_2G_INP (in), B3 RF_BB1_V12A (in), B4 VCO_VCO_V12A (in), B5 PLL_DIV_V12A (in), B6 LDOPLL_OUT_V12 (out), B7 LDORF_IN_VX (in), B8 RF0_TSSI_IN (in), B9 ADC_V12A (in), B10 ADC_V12D (in), B11 ADC_VREF025N (in), B12 RF1_LNA_PE (out), C1 RF1_2G_INN (in), C2 RF0_PA_PE (out), C4 VCO_LO_V12A (in), C5 PLL_PRE_V12A (in), C6 PLL_X1 (io), C7 PLL_X2 (io), C8 BASE_TRX_IP (in), C9 BASE_TRX_QP (in), C10 RF0_LNA_PE (out), C11 LDOADC_IN_VX (in), C12 LDODIG_IN_VX (in), D1 RF1_2G_OUT (out), D2 RF1_PA_PE (out), D3 RF0_LO_V12A (in), D6 BG_V33A (in), D7 RF1_TSSI_IN (in), D8 BASE_TRX_IN (in), D9 BASE_TRX_QN (io), D11 LDOADC_OUT_V12 (in), D12 LDO_V33A (in), E1 RF1_V12A (in), E2 RF_V33A (in), E3 RF1_LO_V12A (in), F3 ANT_TRN (out), F4 WLAN_LED_N (out), G2 ANT_TRNB (out)
part B pins: A14 SRAM_CS_N (out), A15 MD0 (io), A16 MD2 (io), A17 MD5 (io), B13 OE_N (out), B14 FLASH_CS_N (out), B15 MA22 (io), B16 MD4 (io), B17 MD8 (io), C13 WE_N (out), C14 MA20 (io), C15 MD1 (io), C16 MD6 (io), C17 MD10 (io), D14 MA21 (io), D15 MD3 (io), D16 MD9 (io), D17 MD15 (io), E2 TXD2 (out), E15 MD7 (io), E16 MD12 (io), E17 MA1 (io), F1 CTS_N (in), F2 DTR_N (out), F15 MD11 (io), F16 MD13 (io), F17 MA2 (io), G1 RIN (in), G2 DCD_N (in), G3 RTS_N (out), G4 TXD (out), G15 MD14 (io), H2 UPHY_VRES (io), H3 DSR_N (in), H4 RXD2 (in), H15 MA3 (io), H16 MA4 (io), H16 MA0 (io), J1 UPHY_PADP (io), J2 UPHY_PADM (io), J3 RXD (in), K2 UPHY_ID (io), K3 UPHY_VBUS (io), K15 MA7 (io), K16 MA6 (io), K17 MA5 (io), L16 MA9 (io), L17 MA8 (io), M15 MA15 (io), M16 MA11 (io), M17 MA10 (io), N14 MD25 (io), N15 MA19 (io), N16 MA14 (io), N17 MA12 (io), P12 MD31 (io), P13 MD26 (io), P14 MD21 (io), P15 MD16 (io), P16 MA17 (io), P17 MA13 (io), R9 SPI_DIN (in), R10 I2C_SCLK (out), R11 JTAG_TDO (out), R12 MD30 (io), R13 MD27 (io), R14 MD22 (io), R15 MD18 (io), R16 SDRAM_CLK (out), R17 MA16 (io), T8 PORST_N (in), T9 SPI_CLK (out), T10 I2C_SD (io), T11 JTAG_TDI (in), T12 JTAG_TRST_N (in), T13 MD28 (io), T14 MD23 (io), T15 MD19 (io), T16 SDRAM_RAS_N (out), T17 MA18 (io), U8 SPI_DOUT (out), U9 SPI_EN (out), U10 GPIO0 (io), U11 JTAG_TMS (in), U12 JTAG_TCLK (in), U13 MD29 (io), U14 MD24 (io), U15 MD20 (io), U16 MD17 (io), U17 SDRAM_CS_N (out)
part C pins: 44 GE_RXCLK (in), 46 GE_RXDV (in), 48 GE_RXD0 (in), 49 GE_RXD1 (in), 50 GE_RXD3 (in), 52 GE_RXD2 (in), 55 GE_TXD0 (out), 57 GE_TXCLK (out), 59 MDIO (io), 60 GE_TXEN (out), 62 GE_TXD2 (out), 65 GE_TXD1 (out), 66 MDC (out), 68 GE_TXD3 (out), 69 EPHY_REF_RES (io), 75 EPHY_RXP_p0 (in), 77 EPHY_TXP_p1 (out), 78 EPHY_TXN_p0 (out), 79 EPHY_RXN_p0 (in), 82 EPHY_TXN_p1 (out), 83 EPHY_TXP_p0 (out), 85 EPHY_RXN_p1 (in), 86 EPHY_RXP_p1 (in), 90 EPHY_RXP_p2 (in), 91 EPHY_RXN_p2 (in), 94 EPHY_TXN_p2 (out), 96 EPHY_TXP_p2 (out), 97 EPHY_TXP_p3 (out), 98 EPHY_TXN_p3 (out), 101 EPHY_RXP_p3 (in), 102 EPHY_RXN_p3 (in), 103 EPHY_RXN_p4 (in), 104 EPHY_RXP_p4 (in), 106 EPHY_TXN_p4 (out), 107 EPHY_TXP_p4 (out), 109 EPHY_LED0_N (out), 110 EPHY_LED1_N (out), 111 EPHY_LED2_N (out), 113 EPHY_LED3_N (out), 114 EPHY_LED4_N (out)
part D pins: 22 SOC_CO_V12D (in), 26 SOC_IO_V33D (in), 29 SOC_IO_V33D (in), 32 SOC_CO_V12D (in), 39 UPHY_VDDA_V33A (in), 43 UPHY_VDDL_V12D (in), 45 RGMII_CO_V12D (in), 47 RGMII_IO_V33D (in), 53 RGMII_IO_V33D (in), 54 RGMII_IO_V33D (in), 56 RGMII_CO_V12D (in), 63 EPHY_V33A (in), 64 RGMII_IO_V33D (in), 74 EPHY_V33A (in), 87 EPHY_V33A (in), 93 EPHY_V33A (in), 100 EPHY_V33A (in), 105 EPHY_V33A (in), 112 SOC_CO_V12D (in), 118 SOC_IO_V33D (in), 123 SOC_CO_V12D (in), 128 SOC_IO_V33D (in), 133 SOC_IO_V33D (in), 134 SOC_IO_V33D (in), 145 SOC_IO_V33D (in), 154 SOC_CO_V12D (in), 163 SOC_CO_V12D (in), 166 SOC_IO_V33D (in), 171 SOC_CO_V12D (in), 179 SOC_CO_V12D (in), 185 SOC_IO_V33D (in), 187 SOC_CO_V12D (in), 194 SOC_CO_V12D (in), 202 BPLL_POC_V33D (in), 204 SOC_IO_V33D (in), 209 BPLL_AVDD_V12A (in), 211 BPLL_VDD_V12D (in), 218 BPLL_DVDDA_V12D (in), 220 SOC_IO_V33D (in), 222 SOC_CO_V12D (in), GND (in)

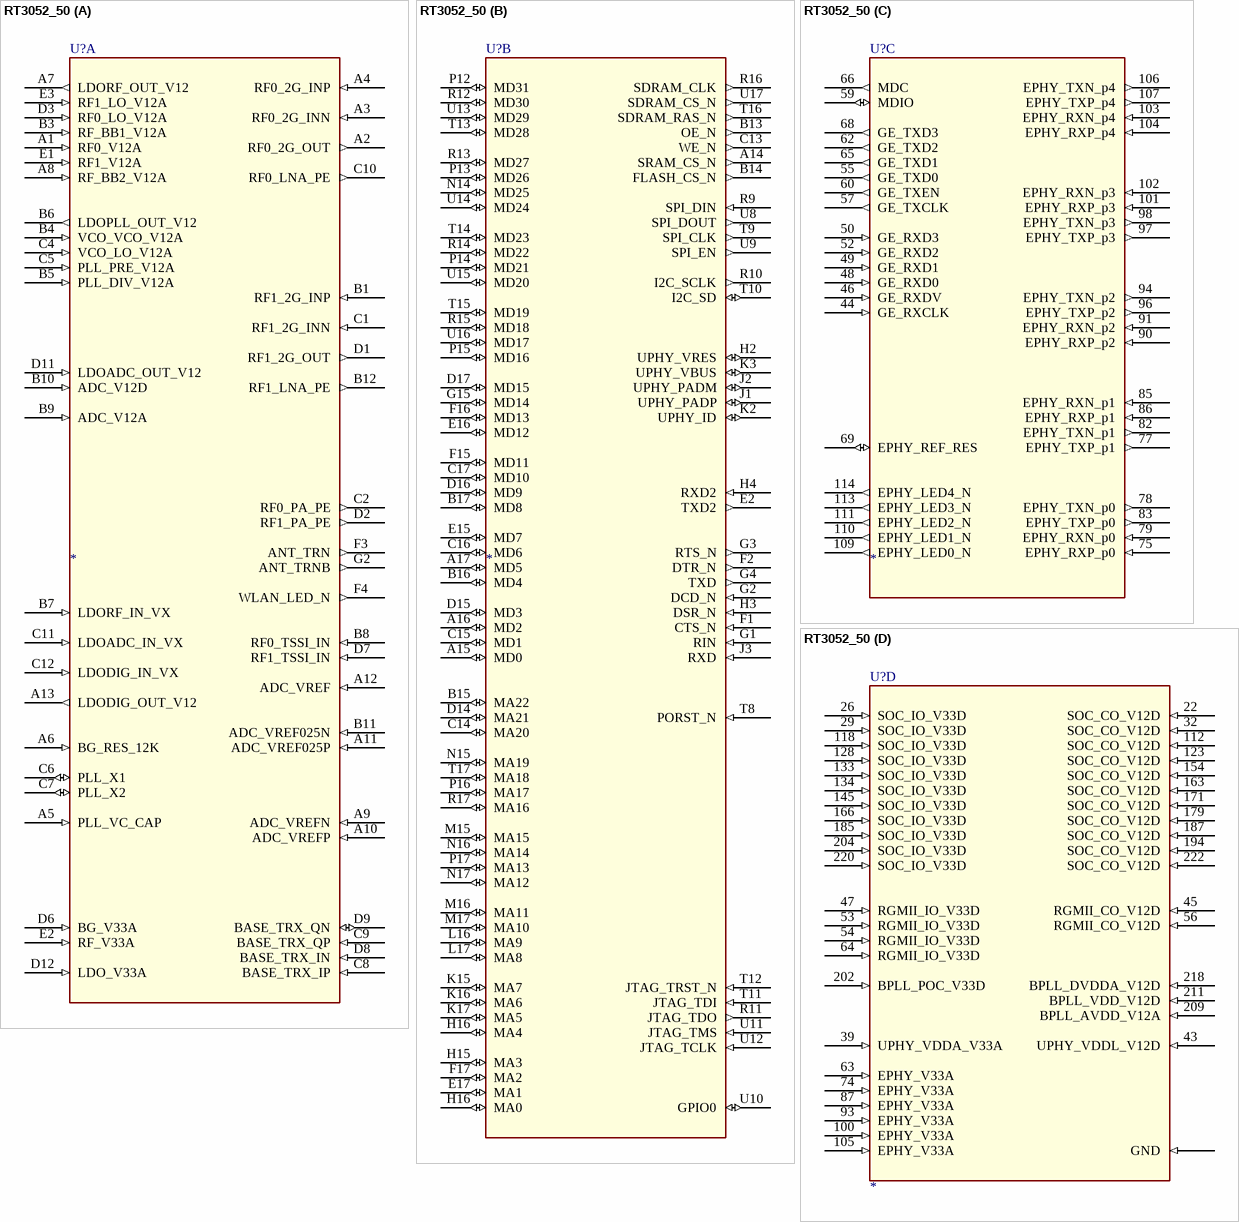
[diagram p67: symbol RT3052_50]

## RT3052_50
designator U?
Altium-Right: 180; Altium-Bottom: 630; Altium-Right1: 160; Altium-Bottom1: 720; Altium-Right2: 170; Altium-Bottom2: 360; Altium-Right3: 200; Altium-Bottom3: 330
footprint QFN285
part A pins: A1 RF0_V12A (in), A2 RF0_2G_OUT (out), A3 RF0_2G_INN (in), A4 RF0_2G_INP (in), A5 PLL_VC_CAP (in), A6 BG_RES_12K (in), A7 LDORF_OUT_V12 (out), A8 RF_BB2_V12A (in), A9 ADC_VREFN (in), A10 ADC_VREFP (in), A11 ADC_VREF025P (in), A12 ADC_VREF (in), A13 LDODIG_OUT_V12 (out), B1 RF1_2G_INP (in), B3 RF_BB1_V12A (in), B4 VCO_VCO_V12A (in), B5 PLL_DIV_V12A (in), B6 LDOPLL_OUT_V12 (out), B7 LDORF_IN_VX (in), B8 RF0_TSSI_IN (in), B9 ADC_V12A (in), B10 ADC_V12D (in), B11 ADC_VREF025N (in), B12 RF1_LNA_PE (out), C1 RF1_2G_INN (in), C2 RF0_PA_PE (out), C4 VCO_LO_V12A (in), C5 PLL_PRE_V12A (in), C6 PLL_X1 (io), C7 PLL_X2 (io), C8 BASE_TRX_IP (in), C9 BASE_TRX_QP (in), C10 RF0_LNA_PE (out), C11 LDOADC_IN_VX (in), C12 LDODIG_IN_VX (in), D1 RF1_2G_OUT (out), D2 RF1_PA_PE (out), D3 RF0_LO_V12A (in), D6 BG_V33A (in), D7 RF1_TSSI_IN (in), D8 BASE_TRX_IN (in), D9 BASE_TRX_QN (io), D11 LDOADC_OUT_V12 (in), D12 LDO_V33A (in), E1 RF1_V12A (in), E2 RF_V33A (in), E3 RF1_LO_V12A (in), F3 ANT_TRN (out), F4 WLAN_LED_N (out), G2 ANT_TRNB (out)
part B pins: A14 SRAM_CS_N (out), A15 MD0 (io), A16 MD2 (io), A17 MD5 (io), B13 OE_N (out), B14 FLASH_CS_N (out), B15 MA22 (io), B16 MD4 (io), B17 MD8 (io), C13 WE_N (out), C14 MA20 (io), C15 MD1 (io), C16 MD6 (io), C17 MD10 (io), D14 MA21 (io), D15 MD3 (io), D16 MD9 (io), D17 MD15 (io), E2 TXD2 (out), E15 MD7 (io), E16 MD12 (io), E17 MA1 (io), F1 CTS_N (in), F2 DTR_N (out), F15 MD11 (io), F16 MD13 (io), F17 MA2 (io), G1 RIN (in), G2 DCD_N (in), G3 RTS_N (out), G4 TXD (out), G15 MD14 (io), H2 UPHY_VRES (io), H3 DSR_N (in), H4 RXD2 (in), H15 MA3 (io), H16 MA4 (io), H16 MA0 (io), J1 UPHY_PADP (io), J2 UPHY_PADM (io), J3 RXD (in), K2 UPHY_ID (io), K3 UPHY_VBUS (io), K15 MA7 (io), K16 MA6 (io), K17 MA5 (io), L16 MA9 (io), L17 MA8 (io), M15 MA15 (io), M16 MA11 (io), M17 MA10 (io), N14 MD25 (io), N15 MA19 (io), N16 MA14 (io), N17 MA12 (io), P12 MD31 (io), P13 MD26 (io), P14 MD21 (io), P15 MD16 (io), P16 MA17 (io), P17 MA13 (io), R9 SPI_DIN (in), R10 I2C_SCLK (out), R11 JTAG_TDO (out), R12 MD30 (io), R13 MD27 (io), R14 MD22 (io), R15 MD18 (io), R16 SDRAM_CLK (out), R17 MA16 (io), T8 PORST_N (in), T9 SPI_CLK (out), T10 I2C_SD (io), T11 JTAG_TDI (in), T12 JTAG_TRST_N (in), T13 MD28 (io), T14 MD23 (io), T15 MD19 (io), T16 SDRAM_RAS_N (out), T17 MA18 (io), U8 SPI_DOUT (out), U9 SPI_EN (out), U10 GPIO0 (io), U11 JTAG_TMS (in), U12 JTAG_TCLK (in), U13 MD29 (io), U14 MD24 (io), U15 MD20 (io), U16 MD17 (io), U17 SDRAM_CS_N (out)
part C pins: 44 GE_RXCLK (in), 46 GE_RXDV (in), 48 GE_RXD0 (in), 49 GE_RXD1 (in), 50 GE_RXD3 (in), 52 GE_RXD2 (in), 55 GE_TXD0 (out), 57 GE_TXCLK (out), 59 MDIO (io), 60 GE_TXEN (out), 62 GE_TXD2 (out), 65 GE_TXD1 (out), 66 MDC (out), 68 GE_TXD3 (out), 69 EPHY_REF_RES (io), 75 EPHY_RXP_p0 (in), 77 EPHY_TXP_p1 (out), 78 EPHY_TXN_p0 (out), 79 EPHY_RXN_p0 (in), 82 EPHY_TXN_p1 (out), 83 EPHY_TXP_p0 (out), 85 EPHY_RXN_p1 (in), 86 EPHY_RXP_p1 (in), 90 EPHY_RXP_p2 (in), 91 EPHY_RXN_p2 (in), 94 EPHY_TXN_p2 (out), 96 EPHY_TXP_p2 (out), 97 EPHY_TXP_p3 (out), 98 EPHY_TXN_p3 (out), 101 EPHY_RXP_p3 (in), 102 EPHY_RXN_p3 (in), 103 EPHY_RXN_p4 (in), 104 EPHY_RXP_p4 (in), 106 EPHY_TXN_p4 (out), 107 EPHY_TXP_p4 (out), 109 EPHY_LED0_N (out), 110 EPHY_LED1_N (out), 111 EPHY_LED2_N (out), 113 EPHY_LED3_N (out), 114 EPHY_LED4_N (out)
part D pins: 22 SOC_CO_V12D (in), 26 SOC_IO_V33D (in), 29 SOC_IO_V33D (in), 32 SOC_CO_V12D (in), 39 UPHY_VDDA_V33A (in), 43 UPHY_VDDL_V12D (in), 45 RGMII_CO_V12D (in), 47 RGMII_IO_V33D (in), 53 RGMII_IO_V33D (in), 54 RGMII_IO_V33D (in), 56 RGMII_CO_V12D (in), 63 EPHY_V33A (in), 64 RGMII_IO_V33D (in), 74 EPHY_V33A (in), 87 EPHY_V33A (in), 93 EPHY_V33A (in), 100 EPHY_V33A (in), 105 EPHY_V33A (in), 112 SOC_CO_V12D (in), 118 SOC_IO_V33D (in), 123 SOC_CO_V12D (in), 128 SOC_IO_V33D (in), 133 SOC_IO_V33D (in), 134 SOC_IO_V33D (in), 145 SOC_IO_V33D (in), 154 SOC_CO_V12D (in), 163 SOC_CO_V12D (in), 166 SOC_IO_V33D (in), 171 SOC_CO_V12D (in), 179 SOC_CO_V12D (in), 185 SOC_IO_V33D (in), 187 SOC_CO_V12D (in), 194 SOC_CO_V12D (in), 202 BPLL_POC_V33D (in), 204 SOC_IO_V33D (in), 209 BPLL_AVDD_V12A (in), 211 BPLL_VDD_V12D (in), 218 BPLL_DVDDA_V12D (in), 220 SOC_IO_V33D (in), 222 SOC_CO_V12D (in), GND (in)

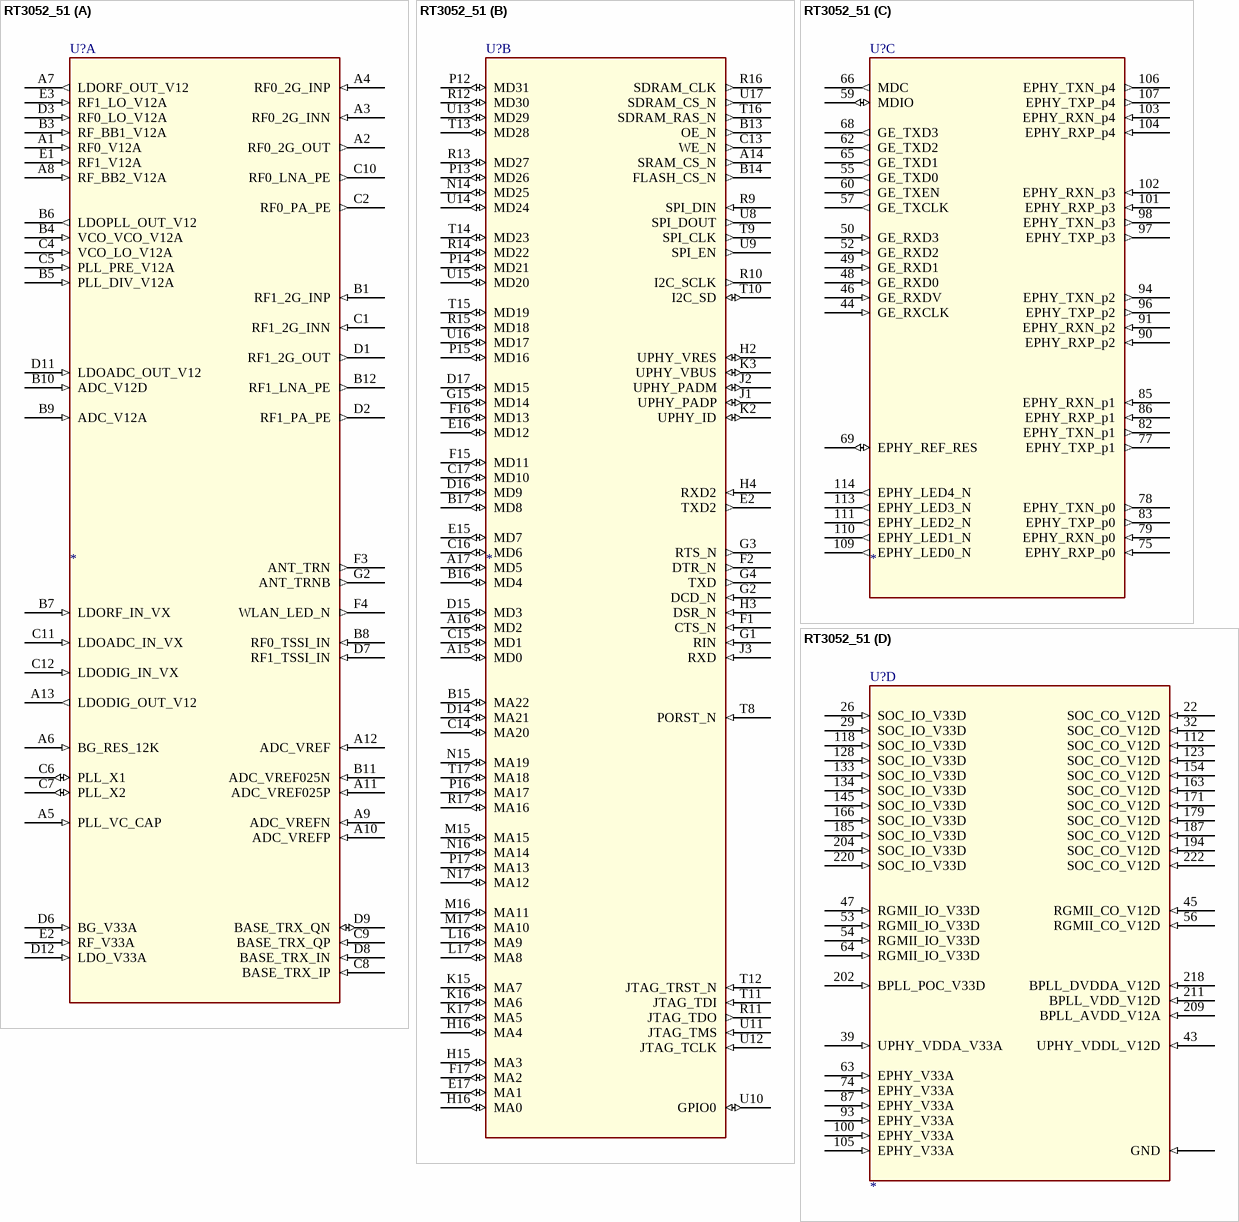
[diagram p68: symbol RT3052_51]